# Altium schematic symbol library mySchlib.SchLib: 236 symbols (part 1 of 2)
Pins are listed as number, name and electrical type; pins without a type are passive.

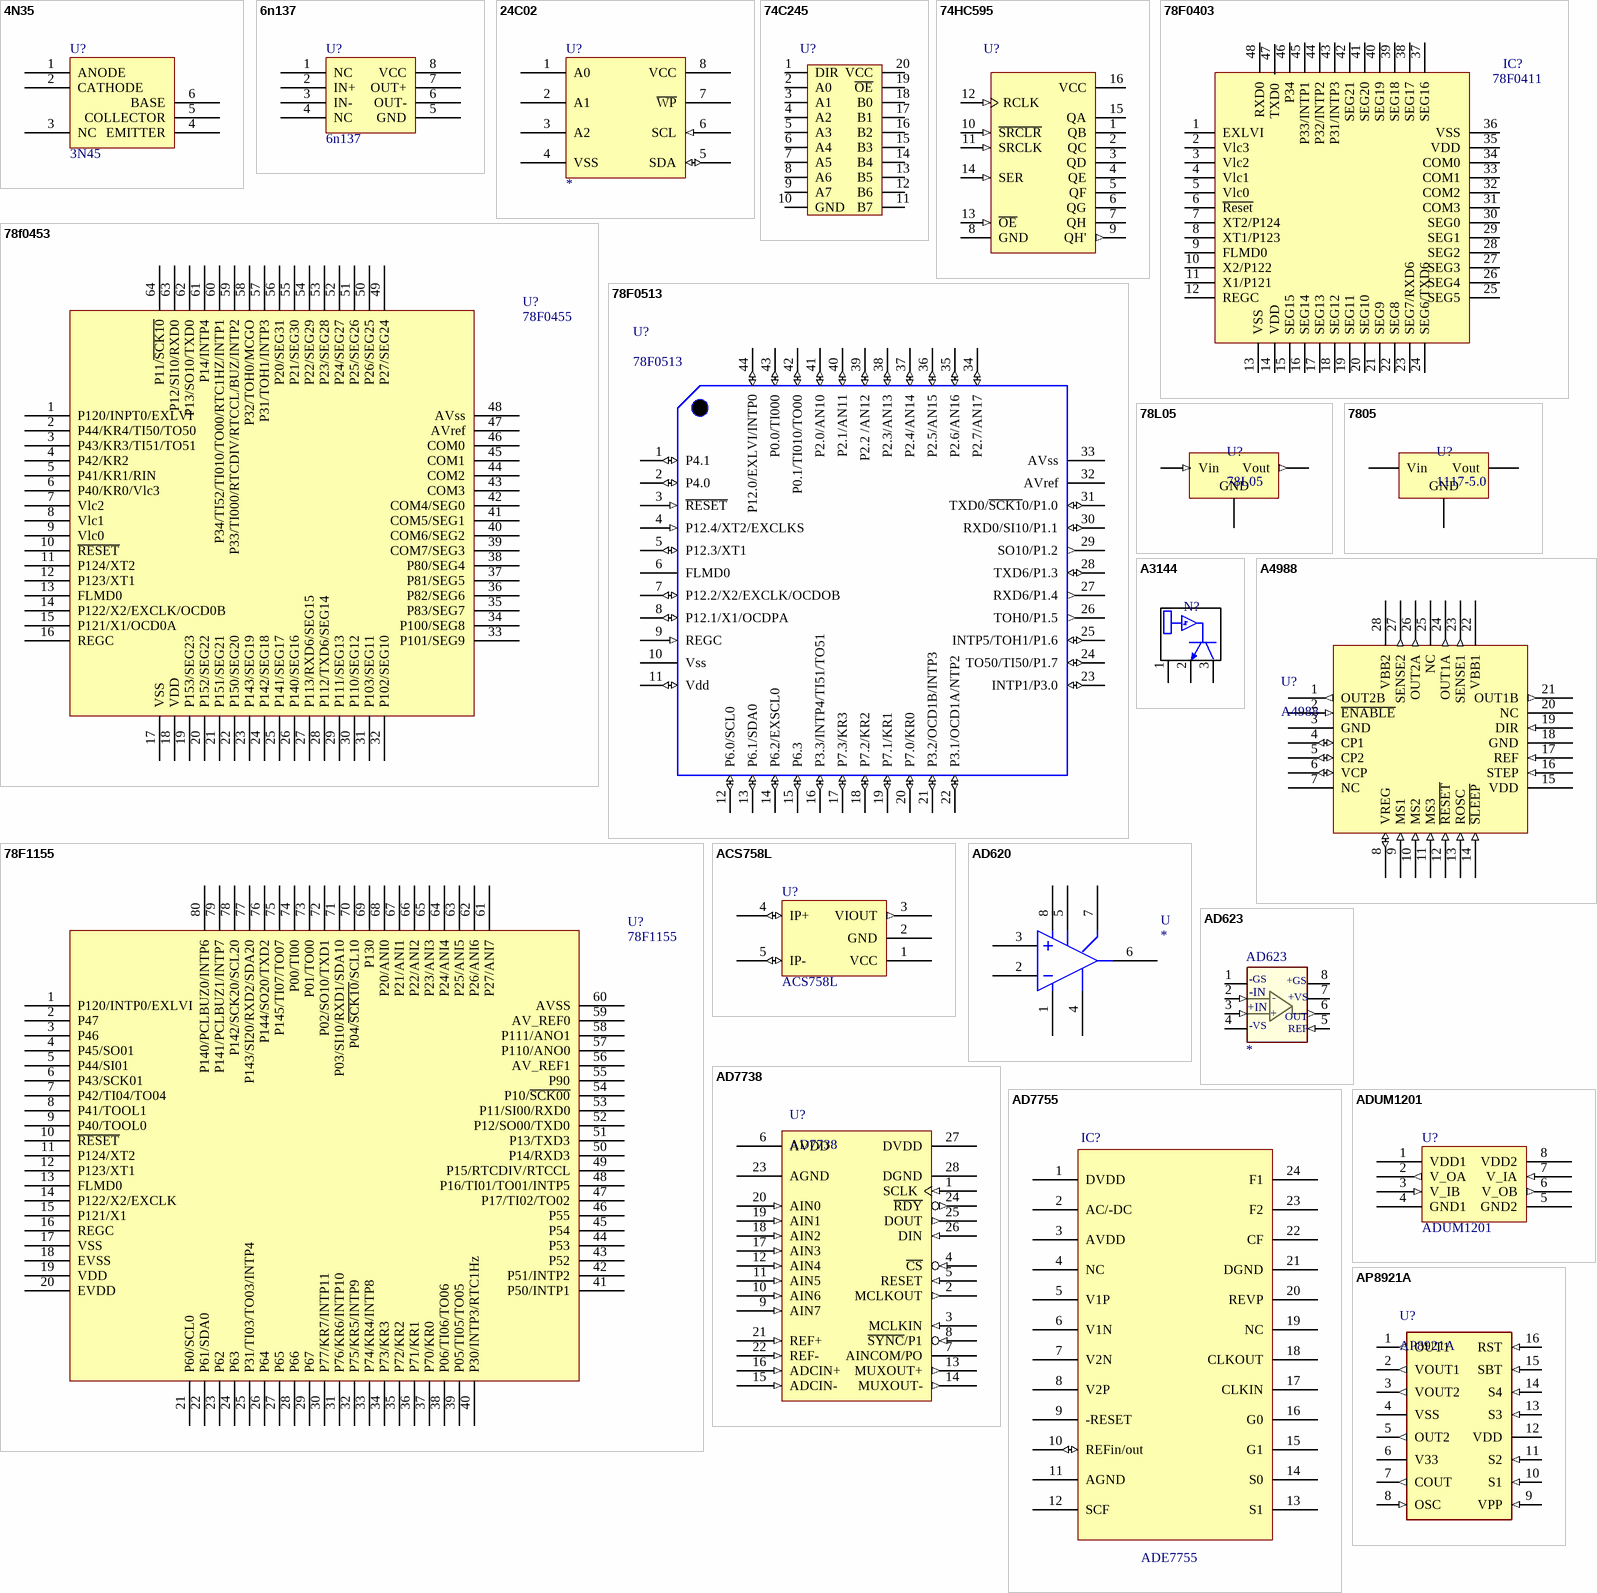
[diagram p0: symbols 4N35 to AP8921A]

## 4N35
designator U?, comment 3N45
footprint DIP6
pins: 1 ANODE, 2 CATHODE, 3 NC, 4 EMITTER, 5 COLLECTOR, 6 BASE

## 6n137
designator U?
footprint DIP8
pins: 1 NC, 2 IN+, 3 IN-, 4 NC, 5 GND (power), 6 OUT-, 7 OUT+, 8 VCC (power)

## 24C02
designator U?
pins: 1 A0, 2 A1, 3 A2, 4 VSS (power), 5 SDA (io), 6 SCL (in), 7 ~{WP}, 8 VCC (power)

## 74C245
designator U?  (value not drawn)
footprint DIP20
pins: 1 DIR, 2 A0, 3 A1, 4 A2, 5 A3, 6 A4, 7 A5, 8 A6, 9 A7, 10 GND (power), 11 B7 (power), 12 B6 (power), 13 B5 (power), 14 B4 (power), 15 B3 (power), 16 B2 (power), 17 B1 (power), 18 B0 (power), 19 ~{OE} (power), 20 VCC (power)

## 74HC595
designator U?  (value not drawn)
footprint SOJ-16
pins: 1 QB (hiz), 2 QC (hiz), 3 QD (hiz), 4 QE (hiz), 5 QF (hiz), 6 QG (hiz), 7 QH (hiz), 8 GND (power), 9 QH' (out), 10 ~{SRCLR} (in), 11 SRCLK (in), 12 RCLK (in), 13 ~{OE} (in), 14 SER (in), 15 QA (hiz), 16 VCC (power)

## 78F0403
designator IC?, comment 78F0411
footprint QUAD48
pins: 1 EXLVI, 2 Vlc3, 3 Vlc2, 4 Vlc1, 5 Vlc0, 6 ~{Reset}, 7 XT2/P124, 8 XT1/P123, 9 FLMD0, 10 X2/P122, 11 X1/P121, 12 REGC, 13 VSS, 14 VDD, 15 SEG15, 16 SEG14, 17 SEG13, 18 SEG12, 19 SEG11, 20 SEG10, 21 SEG9, 22 SEG8, 23 SEG7/RXD6, 24 SEG6/TXD6, 25 SEG5, 26 SEG4, 27 SEG3, 28 SEG2, 29 SEG1, 30 SEG0, 31 COM3, 32 COM2, 33 COM1, 34 COM0, 35 VDD, 36 VSS, 37 SEG16, 38 SEG17, 39 SEG18, 40 SEG19, 41 SEG20, 42 SEG21, 43 P31/INTP3, 44 P32/INTP2, 45 P33/INTP1, 46 P34, 47 TXD0, 48 RXD0
2 alternate drawings of the same symbol

## 78f0453
designator U?, comment 78F0455
footprint QFP12X12-64
pins: 1 P120/INPT0/EXLVI, 2 P44/KR4/TI50/TO50, 3 P43/KR3/TI51/TO51, 4 P42/KR2, 5 P41/KR1/RIN, 6 P40/KR0/Vlc3, 7 Vlc2, 8 Vlc1, 9 Vlc0, 10 ~{RESET}, 11 P124/XT2, 12 P123/XT1, 13 FLMD0, 14 P122/X2/EXCLK/OCD0B, 15 P121/X1/OCD0A, 16 REGC, 17 VSS, 18 VDD, 19 P153/SEG23, 20 P152/SEG22, 21 P151/SEG21, 22 P150/SEG20, 23 P143/SEG19, 24 P142/SEG18, 25 P141/SEG17, 26 P140/SEG16, 27 P113/RXD6/SEG15, 28 P112/TXD6/SEG14, 29 P111/SEG13, 30 P110/SEG12, 31 P103/SEG11, 32 P102/SEG10, 33 P101/SEG9, 34 P100/SEG8, 35 P83/SEG7, 36 P82/SEG6, 37 P81/SEG5, 38 P80/SEG4, 39 COM7/SEG3, 40 COM6/SEG2, 41 COM5/SEG1, 42 COM4/SEG0, 43 COM3, 44 COM2, 45 COM1, 46 COM0, 47 AVref, 48 AVss, 49 P27/SEG24, 50 P26/SEG25, 51 P25/SEG26, 52 P24/SEG27, 53 P23/SEG28, 54 P22/SEG29, 55 P21/SEG30, 56 P20/SEG31, 57 P31/TOH1/INTP3, 58 P32/TOH0/MCGO, 59 P33/TI000/RTCDIV/RTCCL/BUZ/INTP2, 60 P34/TI52/TI010/TO00/RTC1HZ/INTP1, 61 P14/INTP4, 62 P13/SO10/TXD0, 63 P12/SI10/RXD0, 64 P11/~{SCK10}
2 alternate drawings of the same symbol

## 78F0513
designator U?
footprint QFP10X10-G44/P.8N
pins: 1 P4.1 (io), 2 P4.0 (io), 3 ~{RESET} (in), 4 P12.4/XT2/EXCLKS (in), 5 P12.3/XT1 (io), 6 FLMD0, 7 P12.2/X2/EXCLK/OCDOB (io), 8 P12.1/X1/OCDPA (io), 9 REGC (in), 10 Vss (power), 11 Vdd (io), 12 P6.0/SCL0 (io), 13 P6.1/SDA0 (io), 14 P6.2/EXSCL0 (io), 15 P6.3 (io), 16 P3.3/INTP4/TI51/TO51 (io), 17 P7.3/KR3 (io), 18 P7.2/KR2 (io), 19 P7.1/KR1 (io), 20 P7.0/KR0 (io), 21 P3.2/OCD1B/INTP3 (io), 22 P3.1/OCD1A/NTP2 (io), 23 INTP1/P3.0 (io), 24 TO50/TI50/P1.7 (io), 25 INTP5/TOH1/P1.6 (io), 26 TOH0/P1.5 (out), 27 RXD6/P1.4 (out), 28 TXD6/P1.3 (io), 29 SO10/P1.2 (out), 30 RXD0/SI10/P1.1 (io), 31 TXD0/~{SCK1}0/P1.0 (io), 32 AVref (power), 33 AVss (power), 34 P2.7/AN17 (io), 35 P2.6/AN16 (io), 36 P2.5/AN15 (io), 37 P2.4/AN14 (io), 38 P2.3/AN13 (io), 39 P2.2 /AN12 (io), 40 P2.1/AN11 (io), 41 P2.0/AN10 (io), 42 P0.1/TI010/TO00 (io), 43 P0.0/TI000 (io), 44 P12.0/EXLVI/INTP0 (io)

## 78F1155
designator U?
footprint uPD78F1155
pins: 1 P120/INTP0/EXLVI, 2 P47, 3 P46, 4 P45/SO01, 5 P44/SI01, 6 P43/SCK01, 7 P42/TI04/TO04, 8 P41/TOOL1, 9 P40/TOOL0, 10 ~{RESET}, 11 P124/XT2, 12 P123/XT1, 13 FLMD0, 14 P122/X2/EXCLK, 15 P121/X1, 16 REGC, 17 VSS, 18 EVSS, 19 VDD, 20 EVDD, 21 P60/SCL0, 22 P61/SDA0, 23 P62, 24 P63, 25 P31/TI03/TO03/INTP4, 26 P64, 27 P65, 28 P66, 29 P67, 30 P77/KR7/INTP11, 31 P76/KR6/INTP10, 32 P75/KR5/INTP9, 33 P74/KR4/INTP8, 34 P73/KR3, 35 P72/KR2, 36 P71/KR1, 37 P70/KR0, 38 P06/TI06/TO06, 39 P05/TI05/TO05, 40 P30/INTP3/RTC1Hz, 41 P50/INTP1, 42 P51/INTP2, 43 P52, 44 P53, 45 P54, 46 P55, 47 P17/TI02/TO02, 48 P16/TI01/TO01/INTP5, 49 P15/RTCDIV/RTCCL, 50 P14/RXD3, 51 P13/TXD3, 52 P12/SO00/TXD0, 53 P11/SI00/RXD0, 54 P10/~{SCK00}, 55 P90, 56 AV_REF1, 57 P110/ANO0, 58 P111/ANO1, 59 AV_REF0, 60 AVSS, 61 P27/ANI7, 62 P26/ANI6, 63 P25/ANI5, 64 P24/ANI4, 65 P23/ANI3, 66 P22/ANI2, 67 P21/ANI1, 68 P20/ANI0, 69 P130, 70 P04/~{SCK10}/SCL10, 71 P03/SI10/RXD1/SDA10, 72 P02/SO10/TXD1, 73 P01/TO00, 74 P00/TI00, 75 P145/TI07/TO07, 76 P144/SO20/TXD2, 77 P143/SI20/RXD2/SDA20, 78 P142/SCK20/SCL20, 79 P141/PCLBUZ1/INTP7, 80 P140/PCLBUZ0/INTP6

## 78L05
designator U?
footprint TO-92
pins: 1 Vout (out), 2 GND (power), 3 Vin (in)

## 7805
designator U?, comment 1117-5.0
footprint SOT-223
pins: 1 GND, 2 Vout, 3 Vin

## A3144
designator N?, comment 霍尔元器件  (value not drawn)
pins: 1 (power), 2, 3

## A4988
designator U?
footprint QFN28 (QFN, 28-Leads, Body 5.00x5.00mm, Pitch 0.50mm, Thermal Pad 3.15x3.15mm, IPC Medium Density)
pins: 1 OUT2B (out), 2 ~{ENABLE} (in), 3 GND (power), 4 CP1 (io), 5 CP2 (io), 6 VCP (io), 7 NC, 8 VREG (io), 9 MS1 (in), 10 MS2 (in), 11 MS3 (in), 12 ~{RESET} (in), 13 ROSC (in), 14 ~{SLEEP} (in), 15 VDD (power), 16 STEP (in), 17 REF (in), 18 GND (power), 19 DIR (in), 20 NC, 21 OUT1B (out), 22 VBB1 (power), 23 SENSE1 (out), 24 OUT1A (out), 25 NC, 26 OUT2A (out), 27 SENSE2 (out), 28 VBB2 (power)

## ACS758L
designator U?
霍尔电流传感器
footprint PFF_ACS758
pins: 1 VCC (power), 2 GND (power), 3 VIOUT (out), 4 IP+ (io), 5 IP- (io)

## AD620
designator U
pins: 1, 2, 3, 4 VCC (power), 5, 6, 7 vcc (power), 8

## AD623
designator AD623
pins: 1 -RG, 2 -IN (in), 3 +IN (in), 4 -Vs (power), 5 Ref (in), 6 OUT (out), 7 +Vs (power), 8 +RG
text: -GS; +GS; -; +VS; +; -VS; REF

## AD7738
designator U?
pins: 1 SCLK (in), 2 MCLKOUT (out), 3 MCLKIN (in), 4 ~{CS} (in), 5 RESET (in), 6 AVDD (power), 7 AINCOM/PO, 8 ~{SYNC}/P1 (in), 9 AIN7 (in), 10 AIN6 (in), 11 AIN5 (in), 12 AIN4 (in), 13 MUXOUT+ (out), 14 MUXOUT- (out), 15 ADCIN- (in), 16 ADCIN+ (in), 17 AIN3 (in), 18 AIN2 (in), 19 AIN1 (in), 20 AIN0 (in), 21 REF+ (in), 22 REF- (in), 23 AGND (power), 24 ~{RDY} (out), 25 DOUT (out), 26 DIN (in), 27 DVDD (power), 28 DGND (power)

## AD7755
designator IC?, comment ADE7755
footprint SOP24 - DUPLICATE
footprint SSOP24-7755
pins: 1 DVDD, 2 AC/-DC, 3 AVDD, 4 NC, 5 V1P, 6 V1N, 7 V2N, 8 V2P, 9 -RESET, 10 REFin/out (io), 11 AGND, 12 SCF, 13 S1, 14 S0, 15 G1, 16 G0, 17 CLKIN, 18 CLKOUT, 19 NC, 20 REVP, 21 DGND, 22 CF, 23 F2, 24 F1
2 alternate drawings of the same symbol

## ADUM1201
designator U?
隔离器
footprint SO-8
pins: 1 VDD1 (power), 2 V_OA (out), 3 V_IB (in), 4 GND1 (power), 5 GND2 (power), 6 V_OB (out), 7 V_IA (in), 8 VDD2 (power)

## AP8921A
designator U?
footprint DIP16
pins: 1 OUT1 (out), 2 VOUT1 (out), 3 VOUT2 (out), 4 VSS (power), 5 OUT2 (out), 6 V33 (power), 7 COUT (out), 8 OSC (in), 9 VPP (in), 10 S1 (in), 11 S2 (in), 12 VDD (power), 13 S3 (in), 14 S4 (in), 15 SBT (in), 16 RST (in)

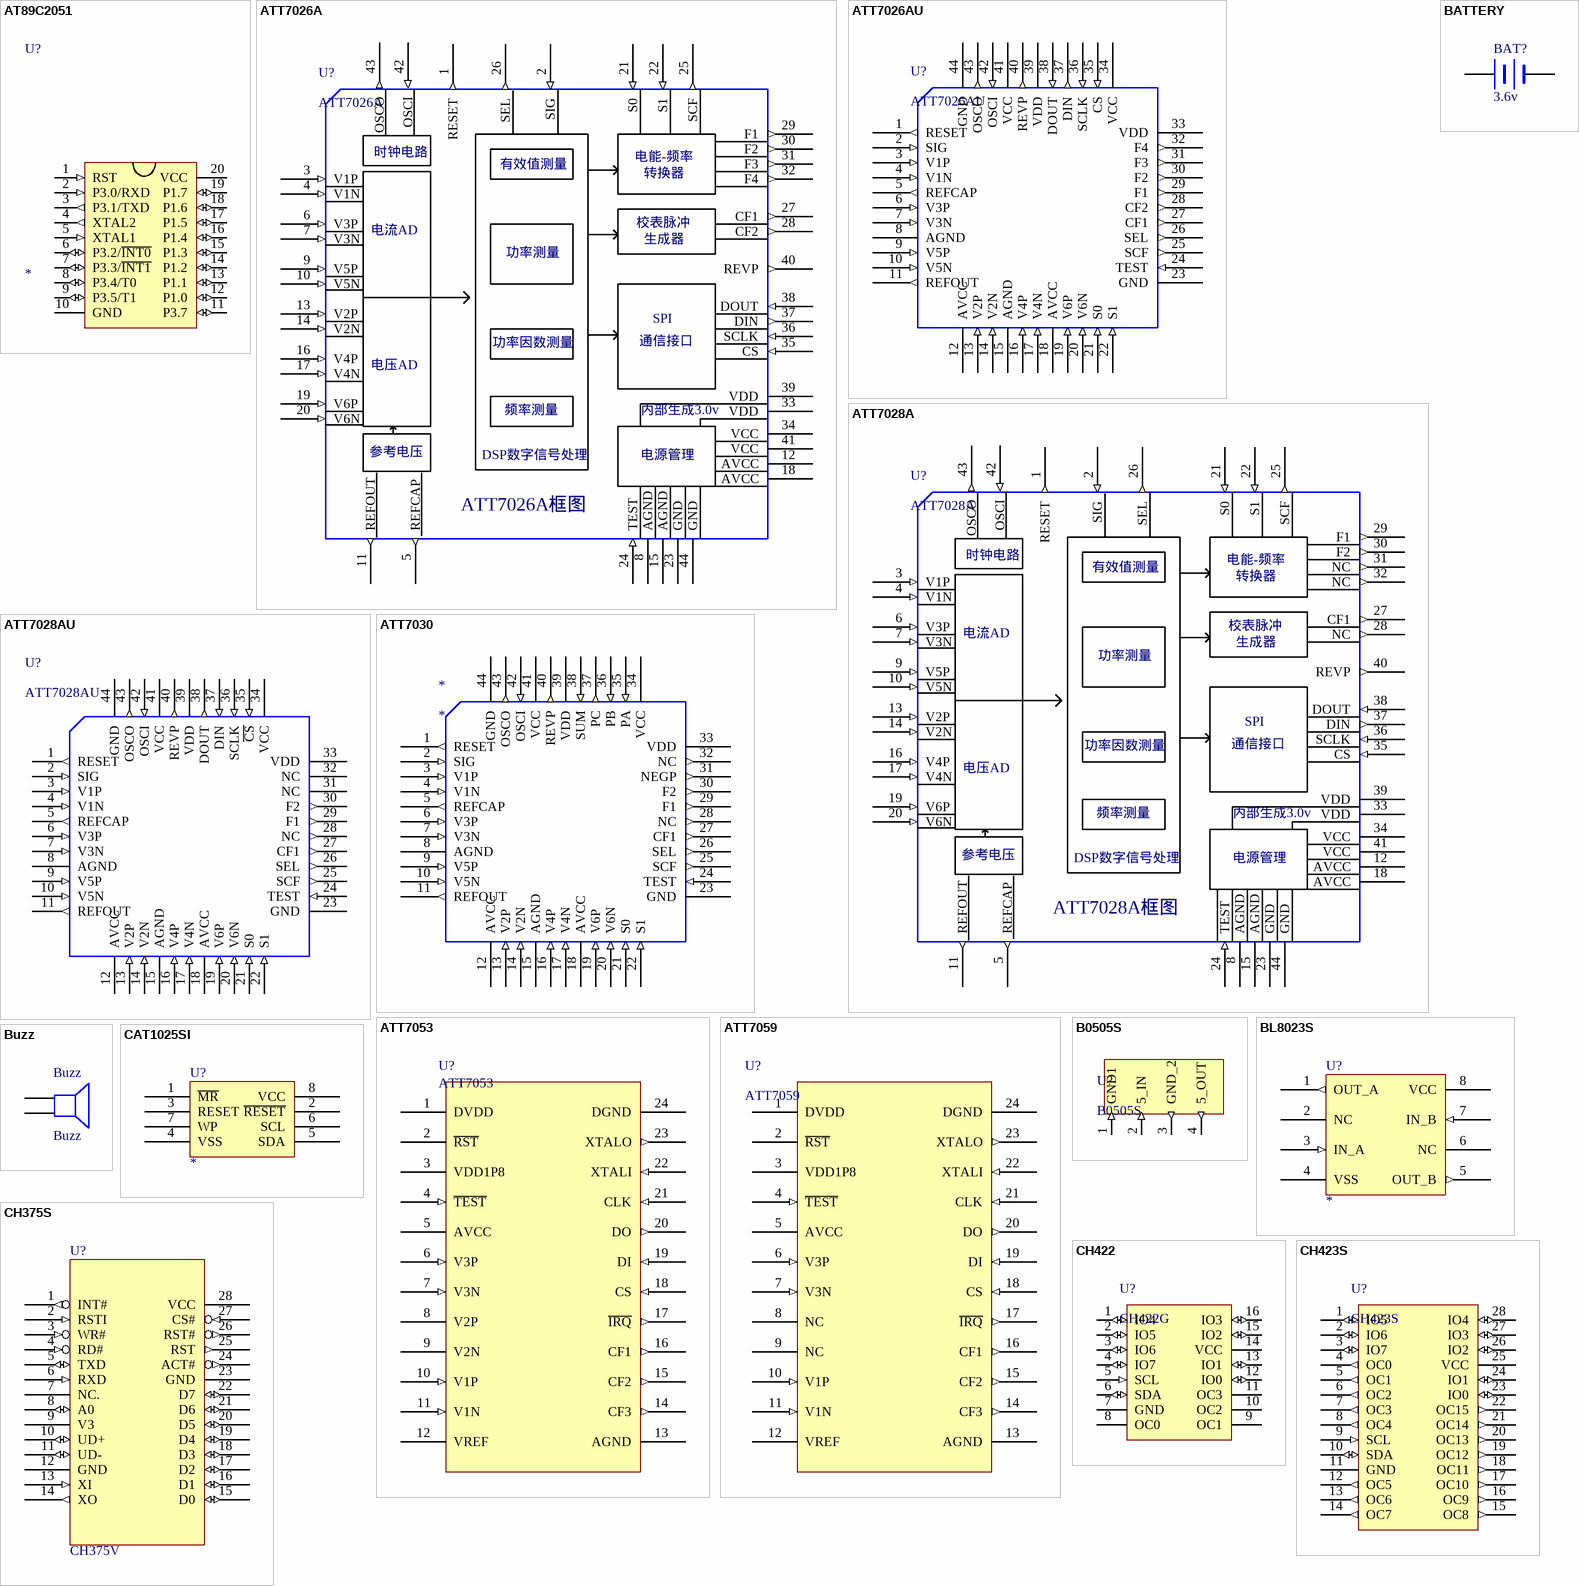
[diagram p1: symbols AT89C2051 to CH423S]

## AT89C2051
designator U?
footprint DIP20
pins: 1 RST (in), 2 P3.0/RXD (in), 3 P3.1/TXD (out), 4 XTAL2 (out), 5 XTAL1 (in), 6 P3.2/~{INT0} (io), 7 P3.3/~{INT1} (io), 8 P3.4/T0 (io), 9 P3.5/T1 (io), 10 GND (power), 11 P3.7 (io), 12 P1.0 (io), 13 P1.1 (io), 14 P1.2 (io), 15 P1.3 (io), 16 P1.4 (io), 17 P1.5 (io), 18 P1.6 (io), 19 P1.7 (io), 20 VCC (power)

## ATT7026A
designator U?
footprint ATT7026 (QFP, 44-Leads, Body 14.0x14.0mm (max), Pitch 0.80mm, IPC Medium Density)
pins: 1 RESET (out), 2 SIG (in), 3 V1P (in), 4 V1N (in), 5 REFCAP (out), 6 V3P (in), 7 V3N (in), 8 AGND (power), 9 V5P (in), 10 V5N (in), 11 REFOUT (out), 12 AVCC (power), 13 V2P (in), 14 V2N (in), 15 AGND (power), 16 V4P (in), 17 V4N (in), 18 AVCC (power), 19 V6P (in), 20 V6N (in), 21 S0 (in), 22 S1 (in), 23 GND (power), 24 TEST (in), 25 SCF (out), 26 SEL (out), 27 CF1 (out), 28 CF2 (out), 29 F1 (out), 30 F2 (out), 31 F3 (out), 32 F4 (out), 33 VDD (power), 34 VCC (power), 35 CS (in), 36 SCLK (in), 37 DIN (out), 38 DOUT (in), 39 VDD (power), 40 REVP (out), 41 VCC (power), 42 OSCI (in), 43 OSCO (out), 44 GND (power)
text: 时钟电路; 电能-频率; 有效值测量; 转换器; 校表脉冲; 电流AD; 生成器; 功率测量; SPI; 功率因数测量; 通信接口; 电压AD; 频率测量; 内部生成3.0v; 参考电压; DSP数字信号处理; 电源管理; ATT7026A框图

## ATT7026AU
designator U?
footprint ATT7026 (QFP, 44-Leads, Body 14.0x14.0mm (max), Pitch 0.80mm, IPC Medium Density)
pins: 1 RESET (out), 2 SIG (in), 3 V1P (in), 4 V1N (in), 5 REFCAP (out), 6 V3P (in), 7 V3N (in), 8 AGND (power), 9 V5P (in), 10 V5N (in), 11 REFOUT (out), 12 AVCC (power), 13 V2P (in), 14 V2N (in), 15 AGND (power), 16 V4P (in), 17 V4N (in), 18 AVCC (power), 19 V6P (in), 20 V6N (in), 21 S0 (in), 22 S1 (in), 23 GND (power), 24 TEST (in), 25 SCF (out), 26 SEL (out), 27 CF1 (out), 28 CF2 (out), 29 F1 (out), 30 F2 (out), 31 F3 (out), 32 F4 (out), 33 VDD (power), 34 VCC (power), 35 CS (in), 36 SCLK (in), 37 DIN (out), 38 DOUT (in), 39 VDD (power), 40 REVP (out), 41 VCC (power), 42 OSCI (in), 43 OSCO (out), 44 GND (power)

## ATT7028A
designator U?
footprint ATT7026 (QFP, 44-Leads, Body 14.0x14.0mm (max), Pitch 0.80mm, IPC Medium Density)
pins: 1 RESET (out), 2 SIG (in), 3 V1P (in), 4 V1N (in), 5 REFCAP (out), 6 V3P (in), 7 V3N (in), 8 AGND (power), 9 V5P (in), 10 V5N (in), 11 REFOUT (out), 12 AVCC (power), 13 V2P (in), 14 V2N (in), 15 AGND (power), 16 V4P (in), 17 V4N (in), 18 AVCC (power), 19 V6P (in), 20 V6N (in), 21 S0 (in), 22 S1 (in), 23 GND (power), 24 TEST (in), 25 SCF (out), 26 SEL (out), 27 CF1 (out), 28 NC (out), 29 F1 (out), 30 F2 (out), 31 NC (out), 32 NC (out), 33 VDD (power), 34 VCC (power), 35 CS (in), 36 SCLK (in), 37 DIN (out), 38 DOUT (in), 39 VDD (power), 40 REVP (out), 41 VCC (power), 42 OSCI (in), 43 OSCO (out), 44 GND (power)
text: 时钟电路; 电能-频率; 有效值测量; 转换器; 校表脉冲; 电流AD; 生成器; 功率测量; SPI; 功率因数测量; 通信接口; 电压AD; 频率测量; 内部生成3.0v; 参考电压; DSP数字信号处理; 电源管理; ATT7028A框图

## ATT7028AU
designator U?
footprint ATT7026 (QFP, 44-Leads, Body 14.0x14.0mm (max), Pitch 0.80mm, IPC Medium Density)
pins: 1 RESET (out), 2 SIG (in), 3 V1P (in), 4 V1N (in), 5 REFCAP (out), 6 V3P (in), 7 V3N (in), 8 AGND (power), 9 V5P (in), 10 V5N (in), 11 REFOUT (out), 12 AVCC (power), 13 V2P (in), 14 V2N (in), 15 AGND (power), 16 V4P (in), 17 V4N (in), 18 AVCC (power), 19 V6P (in), 20 V6N (in), 21 S0 (in), 22 S1 (in), 23 GND (power), 24 TEST (in), 25 SCF (out), 26 SEL (out), 27 CF1 (out), 28 NC (out), 29 F1 (out), 30 F2 (out), 31 NC, 32 NC, 33 VDD (power), 34 VCC (power), 35 ~{CS} (in), 36 SCLK (in), 37 DIN (in), 38 DOUT (out), 39 VDD (power), 40 REVP (out), 41 VCC (power), 42 OSCI (in), 43 OSCO (out), 44 GND (power)

## ATT7030
designator *
pins: 1 RESET (out), 2 SIG (in), 3 V1P (in), 4 V1N (in), 5 REFCAP (out), 6 V3P (in), 7 V3N (in), 8 AGND (power), 9 V5P (in), 10 V5N (in), 11 REFOUT (out), 12 AVCC (power), 13 V2P (in), 14 V2N (in), 15 AGND (power), 16 V4P (in), 17 V4N (in), 18 AVCC (power), 19 V6P (in), 20 V6N (in), 21 S0 (in), 22 S1 (in), 23 GND (power), 24 TEST (in), 25 SCF (out), 26 SEL (out), 27 CF1 (out), 28 NC (out), 29 F1 (out), 30 F2 (out), 31 NEGP (out), 32 NC (out), 33 VDD (power), 34 VCC (power), 35 PA (in), 36 PB (in), 37 PC (out), 38 SUM (in), 39 VDD (power), 40 REVP (out), 41 VCC (power), 42 OSCI (in), 43 OSCO (out), 44 GND (power)

## ATT7053
designator U?
footprint SSOP24 -7059
pins: 1 DVDD (power), 2 ~{RST}, 3 VDD1P8 (power), 4 ~{TEST} (in), 5 AVCC (power), 6 V3P (in), 7 V3N (in), 8 V2P, 9 V2N, 10 V1P (in), 11 V1N (in), 12 VREF (power), 13 AGND (power), 14 CF3 (out), 15 CF2 (out), 16 CF1 (out), 17 ~{IRQ} (out), 18 CS (in), 19 DI (in), 20 DO (out), 21 CLK (in), 22 XTALI (in), 23 XTALO (out), 24 DGND (power)

## ATT7059
designator U?
footprint SSOP24 -7059
pins: 1 DVDD (power), 2 ~{RST}, 3 VDD1P8 (power), 4 ~{TEST} (in), 5 AVCC (power), 6 V3P (in), 7 V3N (in), 8 NC, 9 NC, 10 V1P (in), 11 V1N (in), 12 VREF (power), 13 AGND (power), 14 CF3 (out), 15 CF2 (out), 16 CF1 (out), 17 ~{IRQ} (out), 18 CS (in), 19 DI (in), 20 DO (out), 21 CLK (in), 22 XTALI (in), 23 XTALO (out), 24 DGND (power)

## B0505S
designator U?
footprint B05S05
pins: 1 GND1 (in), 2 5_IN (in), 3 GND_2 (out), 4 5_OUT (out)

## BATTERY
designator BAT?, comment 3.6v
Battery
footprint BAT
pins: 1 +, 2 -
2 alternate drawings of the same symbol

## BL8023S
designator U?
footprint SO8 - duplicate (Small Outline; 8 Leads; Body Width 3.9 mm; Pitch 1.27 mm)
pins: 1 OUT_A (out), 2 NC, 3 IN_A (in), 4 VSS (power), 5 OUT_B (out), 6 NC, 7 IN_B (in), 8 VCC (power)

## Buzz
designator Buzz
Published: 24-Mar-1999; LatestRevisionDate: 17-Jul-2002; LatestRevisionNote: Re-released for DXP Platform.; PackageReference: PIN2; Publisher: Altium Limited
pins: 1, 2

## CAT1025SI
designator U?
footprint SO-8
pins: 1 ~{MR}, 2 ~{RESET}, 3 RESET, 4 VSS, 5 SDA, 6 SCL, 7 WP, 8 VCC

## CH375S
designator U?, comment CH375V
USB Host & Device / Slave for MCU, parallel / UART Serial
footprint SOP28
pins: 1 INT# (out), 2 RSTI (in), 3 WR# (in), 4 RD# (in), 5 TXD (io), 6 RXD (in), 7 NC., 8 A0 (io), 9 V3 (power), 10 UD+ (io), 11 UD- (io), 12 GND (power), 13 XI (in), 14 XO (out), 15 D0 (io), 16 D1 (io), 17 D2 (io), 18 D3 (io), 19 D4 (io), 20 D5 (io), 21 D6 (io), 22 D7 (io), 23 GND (power), 24 ACT# (out), 25 RST (out), 26 RST# (out), 27 CS# (in), 28 VCC (power)

## CH422
designator U?, comment CH422G
pins: 1 IO4 (io), 2 IO5 (io), 3 IO6 (io), 4 IO7 (io), 5 SCL (in), 6 SDA (io), 7 GND (power), 8 OC0 (oc), 9 OC1 (oc), 10 OC2 (oc), 11 OC3 (oc), 12 IO0 (io), 13 IO1 (io), 14 VCC (power), 15 IO2 (io), 16 IO3 (io)

## CH423S
designator U?
footprint SOP28
pins: 1 IO5 (io), 2 IO6 (io), 3 IO7 (io), 4 OC0 (out), 5 OC1 (out), 6 OC2 (out), 7 OC3 (out), 8 OC4 (out), 9 SCL (in), 10 SDA (io), 11 GND (power), 12 OC5 (out), 13 OC6 (out), 14 OC7 (out), 15 OC8 (out), 16 OC9 (out), 17 OC10 (out), 18 OC11 (out), 19 OC12 (out), 20 OC13 (out), 21 OC14 (out), 22 OC15 (out), 23 IO0 (io), 24 IO1 (io), 25 VCC (power), 26 IO2 (io), 27 IO3 (io), 28 IO4 (io)

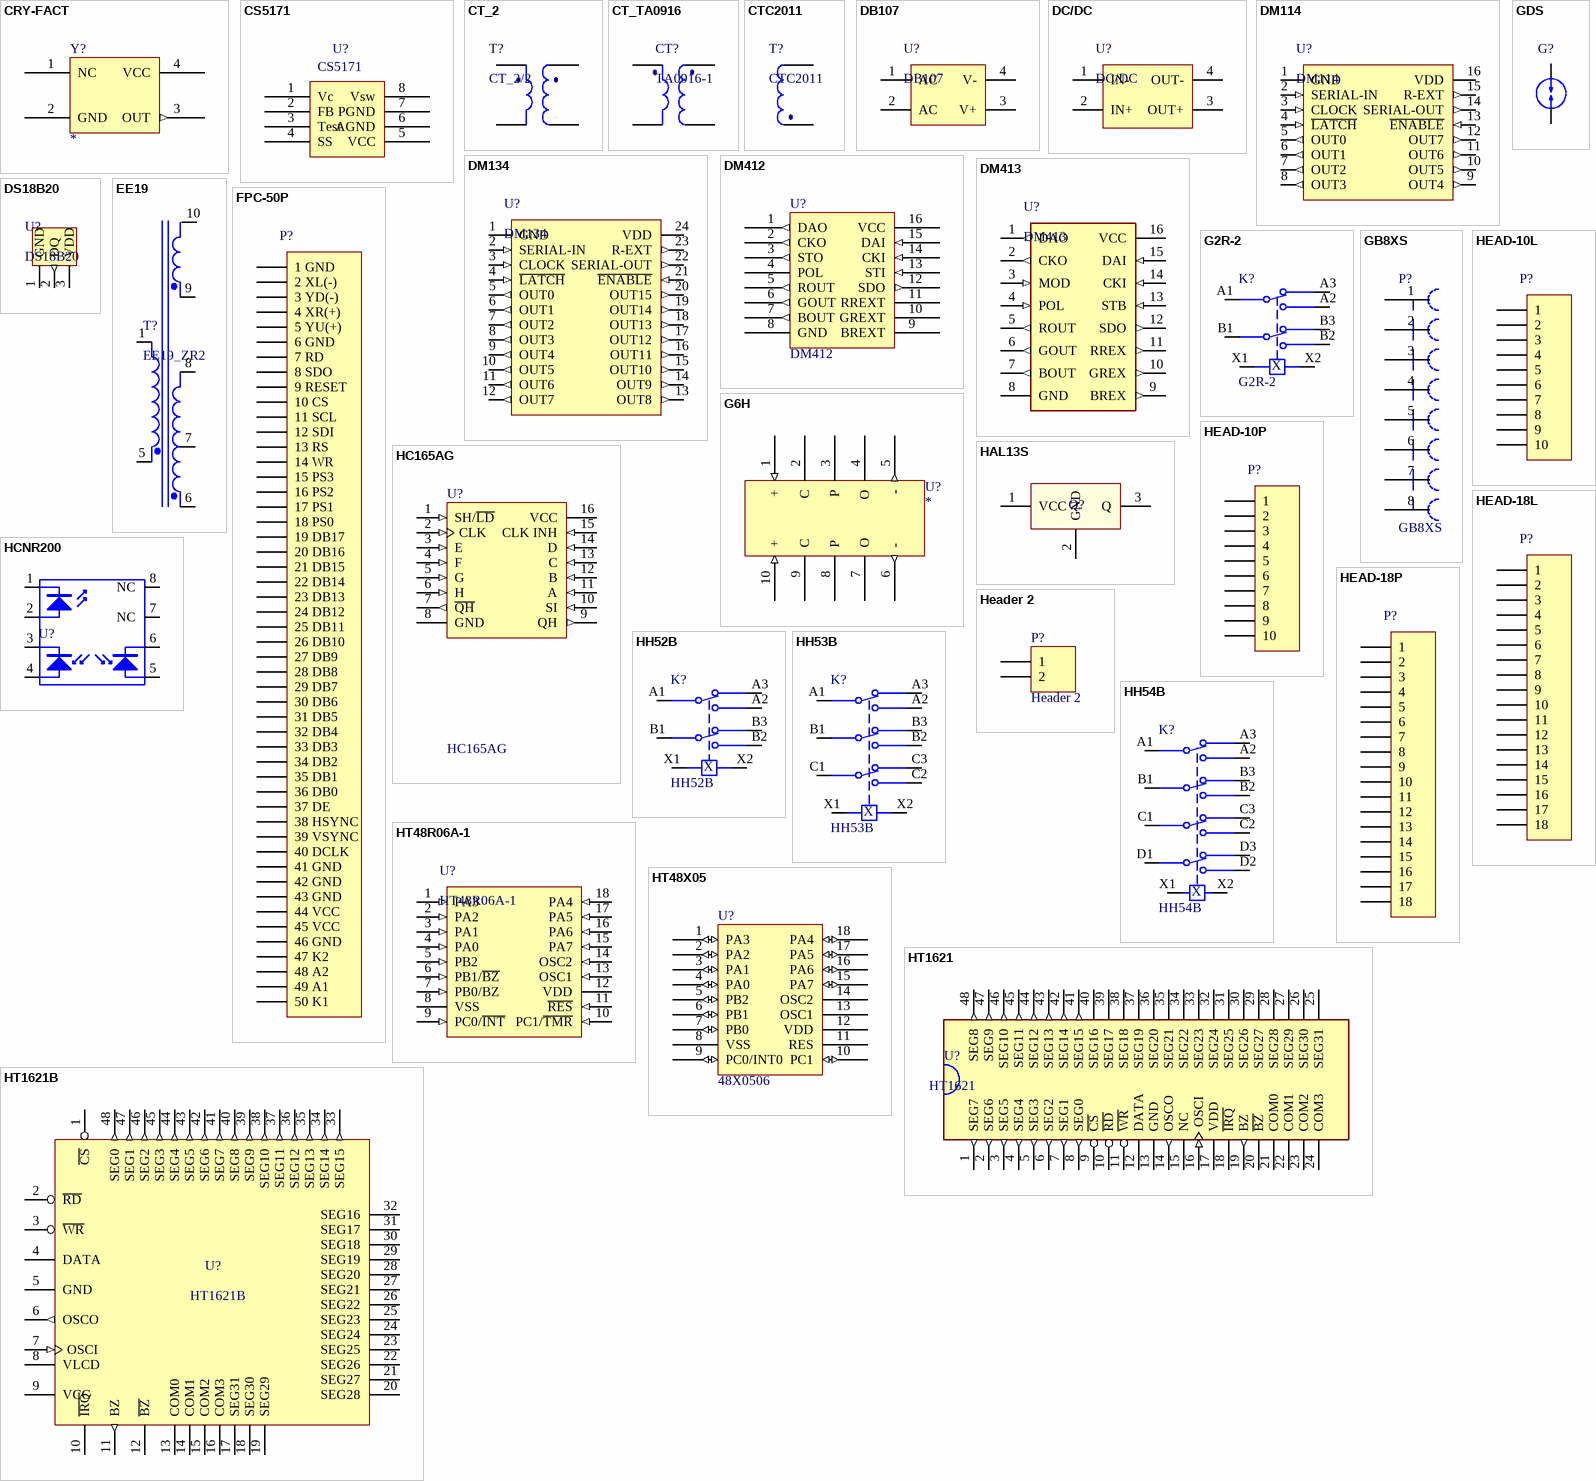
[diagram p2: symbols CRY-FACT to HT1621B]

## CRY-FACT
designator Y?
footprint YA-FACT
pins: 1 NC (hiz), 2 GND (power), 3 OUT (out), 4 VCC (power)

## CS5171
designator U?
footprint SO-8
pins: 1 Vc, 2 FB, 3 Test, 4 SS, 5 VCC, 6 AGND, 7 PGND, 8 Vsw
2 alternate drawings of the same symbol

## CT_2
designator T?, comment CT_2/2
footprint CT_2
pins: 1, 2, 3, 4

## CT_TA0916
designator CT?, comment TA0916-1
footprint CT2/4
pins: 1, 2, 3, 4

## CTC2011
designator T?
footprint CTC2011 (5A/2,5mA)
pins: 1, 2

## DB107
designator U?
footprint DB107
pins: 1 AC, 2 AC, 3 V+, 4 V-

## DC/DC
designator U?
footprint ND4805
pins: 1 IN-, 2 IN+, 3 OUT+, 4 OUT-

## DM114
designator U?
footprint DIP16
pins: 1 GND (power), 2 SERIAL-IN (in), 3 CLOCK (in), 4 ~{LATCH} (in), 5 OUT0 (out), 6 OUT1 (out), 7 OUT2 (out), 8 OUT3 (out), 9 OUT4 (out), 10 OUT5 (out), 11 OUT6 (out), 12 OUT7 (out), 13 ~{ENABLE} (in), 14 SERIAL-OUT (out), 15 R-EXT (out), 16 VDD (power)

## DM134
designator U?
footprint DIP24
pins: 1 GND (power), 2 SERIAL-IN (in), 3 CLOCK (in), 4 ~{LATCH} (in), 5 OUT0 (out), 6 OUT1 (out), 7 OUT2 (out), 8 OUT3 (out), 9 OUT4 (out), 10 OUT5 (out), 11 OUT6 (out), 12 OUT7 (out), 13 OUT8 (out), 14 OUT9 (out), 15 OUT10 (out), 16 OUT11 (out), 17 OUT12 (out), 18 OUT13 (out), 19 OUT14 (out), 20 OUT15 (out), 21 ~{ENABLE} (in), 22 SERIAL-OUT (out), 23 R-EXT (out), 24 VDD (power)

## DM412
designator U?
footprint SSOP16 (Footprint not found)
pins: 1 DAO (out), 2 CKO (out), 3 STO (out), 4 POL, 5 ROUT (out), 6 GOUT (out), 7 BOUT (out), 8 GND (power), 9 BREXT, 10 GREXT, 11 RREXT, 12 SDO (out), 13 STI (in), 14 CKI (in), 15 DAI (in), 16 VCC (power)

## DM413
designator U?
pins: 1 DAO (out), 2 CKO (out), 3 MOD (in), 4 POL (in), 5 ROUT (out), 6 GOUT (out), 7 BOUT (out), 8 GND (power), 9 BREX (out), 10 GREX (out), 11 RREX (out), 12 SDO (out), 13 STB (in), 14 CKI (in), 15 DAI (in), 16 VCC (power)

## DS18B20
designator U?
footprint TO-92_DS18B20
pins: 1 GND (power), 2 DQ (out), 3 VDD (power)

## EE19
designator T?, comment EE19_ZR2
footprint EE19
pins: 1, 5, 6, 7, 8, 9, 10

## FPC-50P
designator P?, comment SH230R-5.08  (value not drawn)
pins: 1 1 GND, 2 2 XL(-), 3 3 YD(-), 4 4 XR(+), 5 5 YU(+), 6 6 GND, 7 7 RD, 8 8 SDO, 9 9 RESET, 10 10 CS, 11 11 SCL, 12 12 SDI, 13 13 RS, 14 14 WR, 15 15 PS3, 16 16 PS2, 17 17 PS1, 18 18 PS0, 19 19 DB17, 20 20 DB16, 21 21 DB15, 22 22 DB14, 23 23 DB13, 24 24 DB12, 25 25 DB11, 26 26 DB10, 27 27 DB9, 28 28 DB8, 29 29 DB7, 30 30 DB6, 31 31 DB5, 32 32 DB4, 33 33 DB3, 34 34 DB2, 35 35 DB1, 36 36 DB0, 37 37 DE, 38 38 HSYNC, 39 39 VSYNC, 40 40 DCLK, 41 41 GND, 42 42 GND, 43 43 GND, 44 44 VCC, 45 45 VCC, 46 46 GND, 47 47 K2, 48 48 A2, 49 49 A1, 50 50 K1

## G2R-2
designator K?
pins: A1, A2, A3, B1, B2, B3, X1, X2
text: X

## G6H
designator U?
G6HK-2
pins: 1 + (in), 2 C, 3 P, 4 O, 5 - (out), 6 - (out), 7 O, 8 P, 9 C, 10 + (in)

## GB8XS
designator P?
footprint finger
pins: 1, 2, 3, 4, 5, 6, 7, 8

## GDS
designator G?  (value not drawn)
GAS DISCHARGE TUBE
footprint LC-GDTs_SMD
footprint LC-SMD-5050_2P
pins: 1, 2

## HAL13S
designator Q?, comment 013  (value not drawn)
footprint LC-SOT-23-3
pins: 1 VCC (power), 2 GND (power), 3 Q (power)

## HC165AG
designator U?
8-Bit Parallel-Load Shift Register; Published: 8-Jun-2000; LatestRevisionDate: 13-Apr-2006; LatestRevisionNote: IPC-7351 Footprint Added.; DatasheetVersion: May-1997; PackageVersion: Jan-1998; PackageReference: D016; Publisher: Altium Limited; PackageDescription: 16-Pin Small Outline Integrated Circuit 1.27 mm Pitch; Code_IPC: SOIC127P600-16; ComponentLink1Description: Manufacturer Link; ComponentLink1URL: http://www.ti.com/; ComponentLink2Description: Datasheet; ComponentLink2URL: http://www-s.ti.com/sc/ds/sn74hc165.pdf
footprint SOIC-16
pins: 1 SH/~{LD} (in), 2 CLK (in), 3 E (in), 4 F (in), 5 G (in), 6 H (in), 7 ~{QH} (out), 8 GND (power), 9 QH (out), 10 SI (in), 11 A (in), 12 B (in), 13 C (in), 14 D (in), 15 CLK INH (in), 16 VCC (power)

## HCNR200
designator U?  (value not drawn)
footprint LC-DIP-8_K
pins: 1 A "Anode", 2 K "Cathode", 3 E "Emitter", 4 C "Collector", 5 C "Collector", 6 PD2 "Collector", 7 NC "Collector", 8 NC "Collector"

## HEAD-10L
designator P?, comment SH230R-5.08  (value not drawn)
footprint HEAD-10L-2.0 (Connector; Header; 8 Position)
pins: 1, 2, 3, 4, 5, 6, 7, 8, 9, 10

## HEAD-10P
designator P?, comment SH230R-5.08  (value not drawn)
footprint HEAD-10P-2.0
pins: 1, 2, 3, 4, 5, 6, 7, 8, 9, 10

## HEAD-18L
designator P?, comment SH230R-5.08  (value not drawn)
footprint HEAD-18L-2.0 (Connector; Header; 8 Position)
pins: 1, 2, 3, 4, 5, 6, 7, 8, 9, 10, 11, 12, 13, 14, 15, 16, 17, 18

## HEAD-18P
designator P?, comment SH230R-5.08  (value not drawn)
footprint HEAD-18P-2.0
pins: 1, 2, 3, 4, 5, 6, 7, 8, 9, 10, 11, 12, 13, 14, 15, 16, 17, 18

## Header 2
designator P?
Header, 2-Pin; LatestRevisionDate: 17-Jul-2002; LatestRevisionNote: Re-released for DXP Platform.; Publisher: Altium Limited
footprint CJ
pins: 1, 2
2 alternate drawings of the same symbol

## HH52B
designator K?
footprint HH52B
pins: A1, A2, A3, B1, B2, B3, X1, X2
text: X

## HH53B
designator K?
footprint HH53B
pins: A1, A2, A3, B1, B2, B3, C1, C2, C3, X1, X2
4 alternate drawings of the same symbol
text: X

## HH54B
designator K?
footprint HH54B
pins: A1, A2, A3, B1, B2, B3, C1, C2, C3, D1, D2, D3, X1, X2
text: X

## HT48R06A-1
designator U?
footprint DIP18
pins: 1 PA3 (in), 2 PA2 (in), 3 PA1 (in), 4 PA0 (in), 5 PB2 (in), 6 PB1/~{BZ} (in), 7 PB0/BZ (in), 8 VSS (power), 9 PC0/~{INT} (in), 10 PC1/~{TMR} (in), 11 ~{RES} (in), 12 VDD (power), 13 OSC1 (in), 14 OSC2 (in), 15 PA7 (in), 16 PA6 (in), 17 PA5 (in), 18 PA4 (in)

## HT48X05
designator U?, comment 48X0506
footprint DIP18
pins: 1 PA3 (io), 2 PA2 (io), 3 PA1 (io), 4 PA0 (io), 5 PB2 (io), 6 PB1 (io), 7 PB0 (io), 8 VSS (power), 9 PC0/INT0 (io), 10 PC1 (io), 11 RES, 12 VDD (power), 13 OSC1, 14 OSC2, 15 PA7 (io), 16 PA6 (io), 17 PA5 (io), 18 PA4 (io)

## HT1621
designator U?
footprint SSOP48
pins: 1 SEG7 (out), 2 SEG6 (out), 3 SEG5 (out), 4 SEG4 (out), 5 SEG3 (out), 6 SEG2 (out), 7 SEG1 (out), 8 SEG0 (out), 9 ~{CS}, 10 ~{RD}, 11 ~{WR}, 12 DATA, 13 GND (power), 14 OSCO (out), 15 NC (power), 16 OSCI (in), 17 VDD, 18 ~{IRQ}, 19 BZ (out), 20 ~{BZ}, 21 COM0, 22 COM1, 23 COM2, 24 COM3, 25 SEG31, 26 SEG30, 27 SEG29, 28 SEG28, 29 SEG27, 30 SEG26, 31 SEG25, 32 SEG24, 33 SEG23, 34 SEG22, 35 SEG21, 36 SEG20, 37 SEG19, 38 SEG18, 39 SEG17, 40 SEG16, 41 SEG15 (out), 42 SEG14 (out), 43 SEG13 (out), 44 SEG12 (out), 45 SEG11 (out), 46 SEG10 (out), 47 SEG9 (out), 48 SEG8 (out)

## HT1621B
designator U?
footprint HT1621-PAD
pins: 1 ~{CS}, 2 ~{RD}, 3 ~{WR}, 4 DATA, 5 GND (power), 6 OSCO (out), 7 OSCI (in), 8 VLCD, 9 VCC (power), 10 ~{IRQ}, 11 BZ (out), 12 ~{BZ}, 13 COM0, 14 COM1, 15 COM2, 16 COM3, 17 SEG31, 18 SEG30, 19 SEG29, 20 SEG28, 21 SEG27, 22 SEG26, 23 SEG25, 24 SEG24, 25 SEG23, 26 SEG22, 27 SEG21, 28 SEG20, 29 SEG19, 30 SEG18, 31 SEG17, 32 SEG16, 33 SEG15 (out), 34 SEG14 (out), 35 SEG13 (out), 36 SEG12 (out), 37 SEG11 (out), 38 SEG10 (out), 39 SEG9 (out), 40 SEG8 (out), 41 SEG7 (out), 42 SEG6 (out), 43 SEG5 (out), 44 SEG4 (out), 45 SEG3 (out), 46 SEG2 (out), 47 SEG1 (out), 48 SEG0 (out)

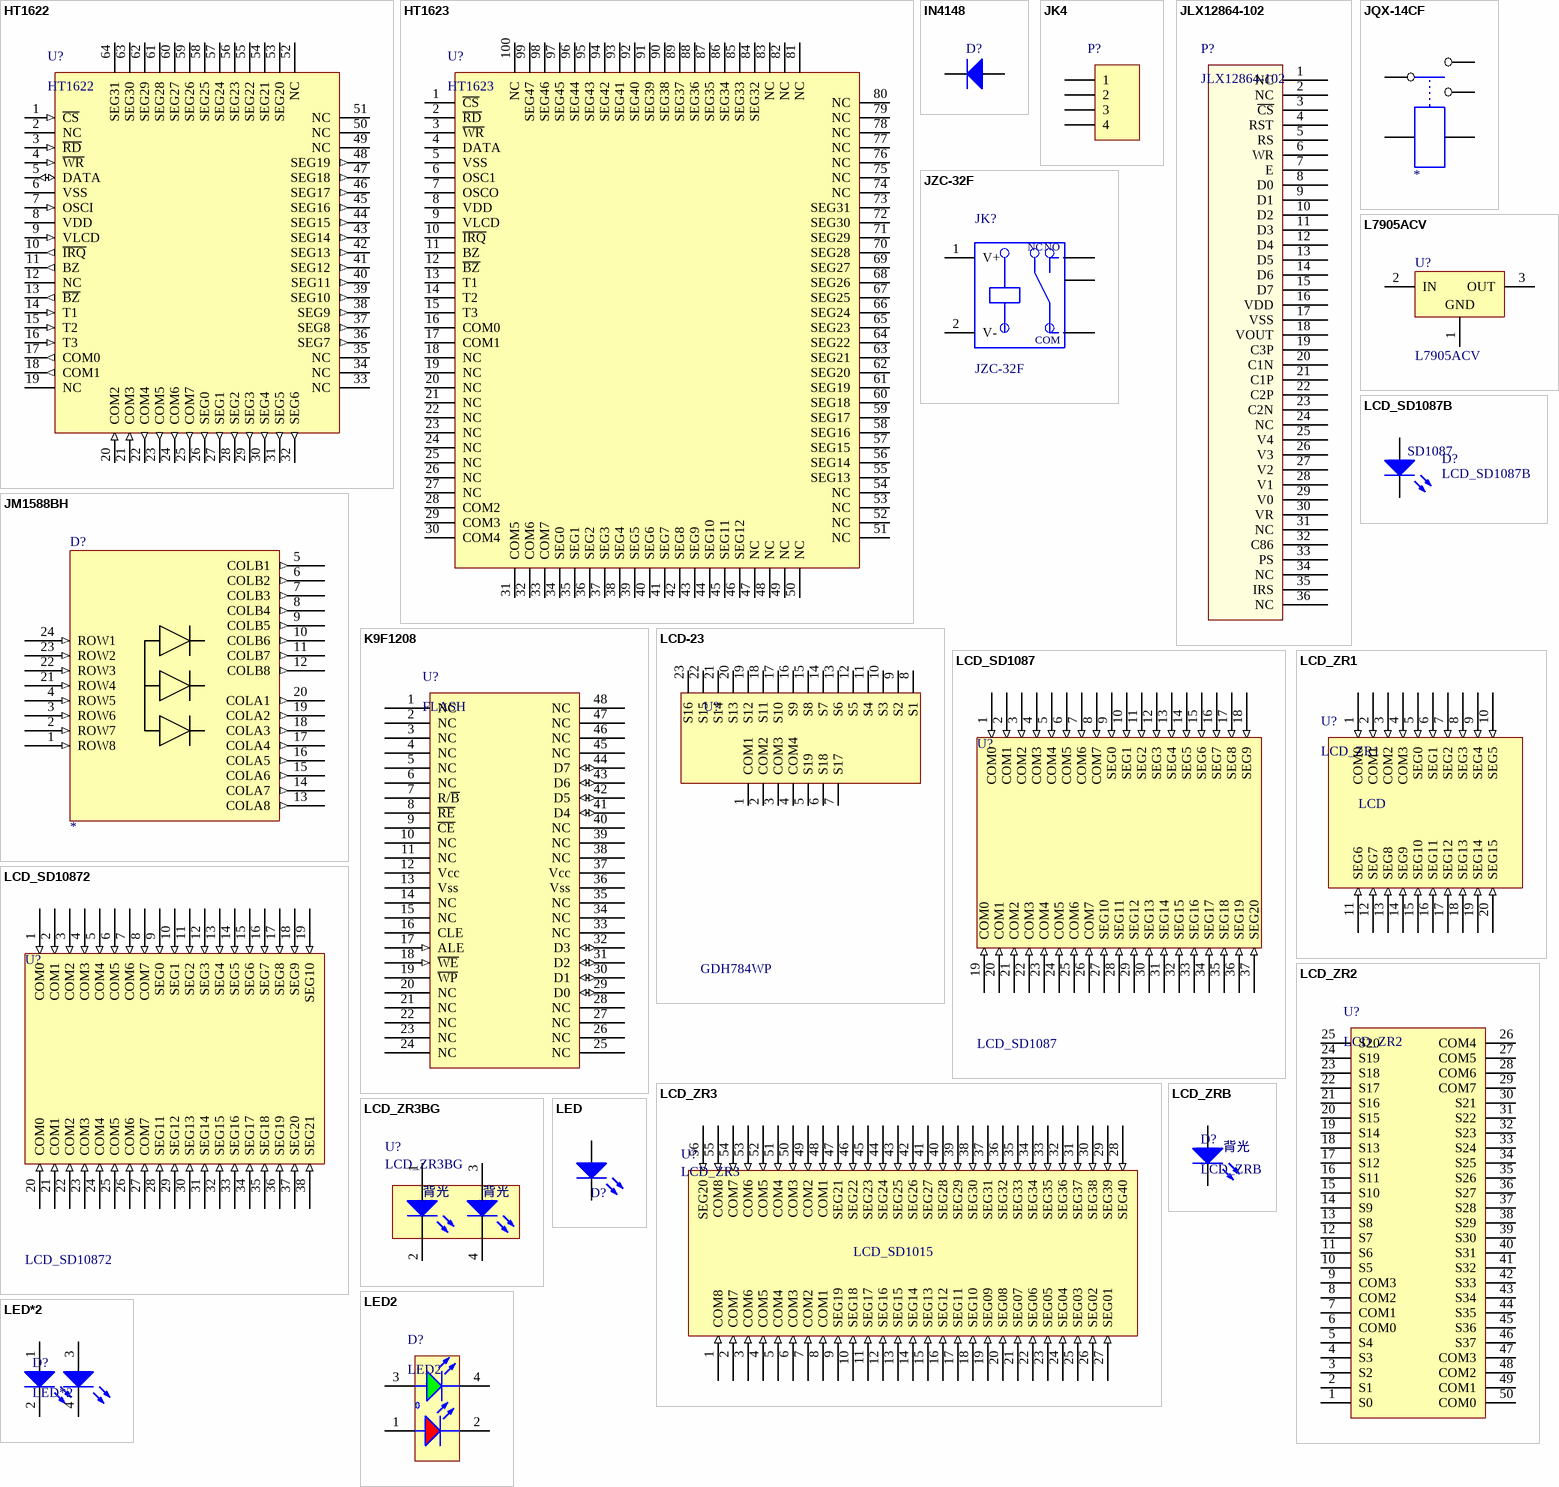
[diagram p3: symbols HT1622 to LED*2]

## HT1622
designator U?
footprint QFP64_HT1622 (HT1622)
pins: 1 ~{CS} (in), 2 NC, 3 ~{RD} (in), 4 ~{WR} (in), 5 DATA (io), 6 VSS (power), 7 OSCI (in), 8 VDD (power), 9 VLCD (in), 10 ~{IRQ} (out), 11 BZ (out), 12 NC, 13 ~{BZ} (out), 14 T1 (in), 15 T2 (in), 16 T3 (in), 17 COM0 (out), 18 COM1 (out), 19 NC, 20 COM2 (in), 21 COM3 (in), 22 COM4 (out), 23 COM5 (out), 24 COM6 (out), 25 COM7 (out), 26 SEG0 (out), 27 SEG1 (out), 28 SEG2 (out), 29 SEG3 (out), 30 SEG4 (out), 31 SEG5 (out), 32 SEG6 (out), 33 NC, 34 NC, 35 NC, 36 SEG7 (out), 37 SEG8 (out), 38 SEG9 (out), 39 SEG10 (out), 40 SEG11 (out), 41 SEG12 (out), 42 SEG13 (out), 43 SEG14 (out), 44 SEG15 (out), 45 SEG16 (out), 46 SEG17 (out), 47 SEG18 (out), 48 SEG19 (out), 49 NC, 50 NC, 51 NC, 52 NC, 53 SEG20, 54 SEG21, 55 SEG22, 56 SEG23, 57 SEG24, 58 SEG25, 59 SEG26, 60 SEG27, 61 SEG28, 62 SEG29, 63 SEG30, 64 SEG31

## HT1623
designator U?
footprint QFP100
pins: 1 ~{CS}, 2 ~{RD}, 3 ~{WR}, 4 DATA, 5 VSS, 6 OSC1, 7 OSCO, 8 VDD, 9 VLCD, 10 ~{IRQ}, 11 BZ, 12 ~{BZ}, 13 T1, 14 T2, 15 T3, 16 COM0, 17 COM1, 18 NC, 19 NC, 20 NC, 21 NC, 22 NC, 23 NC, 24 NC, 25 NC, 26 NC, 27 NC, 28 COM2, 29 COM3, 30 COM4, 31 COM5, 32 COM6, 33 COM7, 34 SEG0, 35 SEG1, 36 SEG2, 37 SEG3, 38 SEG4, 39 SEG5, 40 SEG6, 41 SEG7, 42 SEG8, 43 SEG9, 44 SEG10, 45 SEG11, 46 SEG12, 47 NC, 48 NC, 49 NC, 50 NC, 51 NC, 52 NC, 53 NC, 54 NC, 55 SEG13, 56 SEG14, 57 SEG15, 58 SEG16, 59 SEG17, 60 SEG18, 61 SEG19, 62 SEG20, 63 SEG21, 64 SEG22, 65 SEG23, 66 SEG24, 67 SEG25, 68 SEG26, 69 SEG27, 70 SEG28, 71 SEG29, 72 SEG30, 73 SEG31, 74 NC, 75 NC, 76 NC, 77 NC, 78 NC, 79 NC, 80 NC, 81 NC, 82 NC, 83 NC, 84 SEG32, 85 SEG33, 86 SEG34, 87 SEG35, 88 SEG36, 89 SEG37, 90 SEG38, 91 SEG39, 92 SEG40, 93 SEG41, 94 SEG42, 95 SEG43, 96 SEG44, 97 SEG45, 98 SEG46, 99 SEG47, 100 NC

## IN4148
designator D?  (value not drawn)
footprint LC-0603_LED_S2
pins: A 1, K 2

## JK4
designator P?  (value not drawn)
footprint JK4
pins: 1, 2, 3, 4

## JLX12864-102
designator P?
footprint JK4
pins: 1 NC, 2 NC, 3 ~{CS}, 4 RST, 5 RS, 6 WR, 7 E, 8 D0, 9 D1, 10 D2, 11 D3, 12 D4, 13 D5, 14 D6, 15 D7, 16 VDD, 17 VSS, 18 VOUT, 19 C3P, 20 C1N, 21 C1P, 22 C2P, 23 C2N, 24 NC, 25 V4, 26 V3, 27 V2, 28 V1, 29 V0, 30 VR, 31 NC, 32 C86, 33 PS, 34 NC, 35 IRS, 36 NC

## JM1588BH
designator D?
JM1588单双点阵
pins: 1 ROW8 (in), 2 ROW7 (in), 3 ROW6 (in), 4 ROW5 (in), 5 COLB1 (out), 6 COLB2 (out), 7 COLB3 (out), 8 COLB4 (out), 9 COLB5 (out), 10 COLB6 (out), 11 COLB7 (out), 12 COLB8 (out), 13 COLA8 (out), 14 COLA7 (out), 15 COLA6 (out), 16 COLA5 (out), 17 COLA4 (out), 18 COLA3 (out), 19 COLA2 (out), 20 COLA1 (out), 21 ROW4 (in), 22 ROW3 (in), 23 ROW2 (in), 24 ROW1 (in)

## JQX-14CF
designator ?
pins: 0, 1, 2, 3, 4

## JZC-32F
designator JK?
footprint JQC-3FF
pins: 1 V+ (power), 2 V- (power), COM, NC, NO (power)

## K9F1208
designator U?, comment FLASH
footprint TSOP48
pins: 1 NC, 2 NC, 3 NC, 4 NC, 5 NC, 6 NC, 7 R/~{B}, 8 ~{RE}, 9 ~{CE}, 10 NC, 11 NC, 12 Vcc (power), 13 Vss (power), 14 NC, 15 NC, 16 CLE, 17 ALE (in), 18 ~{WE} (in), 19 ~{WP}, 20 NC, 21 NC, 22 NC, 23 NC, 24 NC, 25 NC, 26 NC, 27 NC, 28 NC, 29 D0 (io), 30 D1 (io), 31 D2 (io), 32 D3 (io), 33 NC, 34 NC, 35 NC, 36 Vss (power), 37 Vcc (power), 38 NC, 39 NC, 40 NC, 41 D4 (io), 42 D5 (io), 43 D6 (io), 44 D7 (io), 45 NC, 46 NC, 47 NC, 48 NC

## L7905ACV
designator U?
Note: Tab is connected to pin 3 (IN).; Published: 24-Aug-2001; LatestRevisionDate: 17-Jul-2002; LatestRevisionNote: Re-released for DXP Platform.; DatasheetVersion: Nov-1999; PackageReference: TO220V; Publisher: Altium Limited; PackageDescription: TO, Thru-Hole, Vertical, Heatsink Mounted; 3 In-Line Leads; Pitch 2.54 mm; Pin sequence 1, 3, 2; ComponentLink1Description: Manufacturer Link; ComponentLink1URL: http://www.st.com/; ComponentLink2Description: Datasheet; ComponentLink2URL: http://www.st.com/stonline/products/literature/ds/2150/l7905ac.pdf
footprint TO-220V
pins: 1 GND (power), 2 IN (power), 3 OUT (power)

## LCD-23
designator U?, comment GDH784WP
footprint LCD-23 (GDH784WP)
pins: 1 COM1, 2 COM2, 3 COM3, 4 COM4, 5 S19, 6 S18, 7 S17, 8 S1, 9 S2, 10 S3, 11 S4, 12 S5, 13 S6, 14 S7, 15 S8, 16 S9, 17 S10, 18 S11, 19 S12, 20 S13, 21 S14, 22 S15, 23 S16
2 alternate drawings of the same symbol

## LCD_SD1087
designator U?
footprint LCD_SD1087
pins: 1 COM0 (in), 2 COM1 (in), 3 COM2 (in), 4 COM3 (in), 5 COM4 (in), 6 COM5 (in), 7 COM6 (in), 8 COM7 (in), 9 SEG0 (in), 10 SEG1 (in), 11 SEG2 (in), 12 SEG3 (in), 13 SEG4 (in), 14 SEG5 (in), 15 SEG6 (in), 16 SEG7 (in), 17 SEG8 (in), 18 SEG9 (in), 19 COM0 (in), 20 COM1 (in), 21 COM2 (in), 22 COM3 (in), 23 COM4 (in), 24 COM5 (in), 25 COM6 (in), 26 COM7 (in), 27 SEG10 (in), 28 SEG11 (in), 29 SEG12 (in), 30 SEG13 (in), 31 SEG14 (in), 32 SEG15 (in), 33 SEG16 (in), 34 SEG17 (in), 35 SEG18 (in), 36 SEG19 (in), 37 SEG20 (in)

## LCD_SD1087B
designator D?
footprint LCD_SD1087B
pins: 1, 2
text: SD1087

## LCD_SD10872
designator U?
footprint LCD_SD10872
pins: 1 COM0 (in), 2 COM1 (in), 3 COM2 (in), 4 COM3 (in), 5 COM4 (in), 6 COM5 (in), 7 COM6 (in), 8 COM7 (in), 9 SEG0 (in), 10 SEG1 (in), 11 SEG2 (in), 12 SEG3 (in), 13 SEG4 (in), 14 SEG5 (in), 15 SEG6 (in), 16 SEG7 (in), 17 SEG8 (in), 18 SEG9 (in), 19 SEG10 (in), 20 COM0 (in), 21 COM1 (in), 22 COM2 (in), 23 COM3 (in), 24 COM4 (in), 25 COM5 (in), 26 COM6 (in), 27 COM7 (in), 28 SEG11 (in), 29 SEG12 (in), 30 SEG13 (in), 31 SEG14 (in), 32 SEG15 (in), 33 SEG16 (in), 34 SEG17 (in), 35 SEG18 (in), 36 SEG19 (in), 37 SEG20 (in), 38 SEG21 (in)

## LCD_ZR1
designator U?
footprint LCD_ZR1
footprint LCD_ZR1
pins: 1 COM0 (in), 2 COM1 (in), 3 COM2 (in), 4 COM3 (in), 5 SEG0 (in), 6 SEG1 (in), 7 SEG2 (in), 8 SEG3 (in), 9 SEG4 (in), 10 SEG5 (in), 11 SEG6 (in), 12 SEG7 (in), 13 SEG8 (in), 14 SEG9 (in), 15 SEG10 (in), 16 SEG11 (in), 17 SEG12 (in), 18 SEG13 (in), 19 SEG14 (in), 20 SEG15 (in)
text: LCD

## LCD_ZR2
designator U?
pins: 1 S0, 2 S1, 3 S2, 4 S3, 5 S4, 6 COM0, 7 COM1, 8 COM2, 9 COM3, 10 S5, 11 S6, 12 S7, 13 S8, 14 S9, 15 S10, 16 S11, 17 S12, 18 S13, 19 S14, 20 S15, 21 S16, 22 S17, 23 S18, 24 S19, 25 S20, 26 COM4, 27 COM5, 28 COM6, 29 COM7, 30 S21, 31 S22, 32 S23, 33 S24, 34 S25, 35 S26, 36 S27, 37 S28, 38 S29, 39 S30, 40 S31, 41 S32, 42 S33, 43 S34, 44 S35, 45 S36, 46 S37, 47 COM3, 48 COM2, 49 COM1, 50 COM0

## LCD_ZR3
designator U?
footprint LCD_ZR3
pins: 1 COM8 (in), 2 COM7 (in), 3 COM6 (in), 4 COM5 (in), 5 COM4 (in), 6 COM3 (in), 7 COM2 (in), 8 COM1 (in), 9 SEG19 (in), 10 SEG18 (in), 11 SEG17 (in), 12 SEG16 (in), 13 SEG15 (in), 14 SEG14 (in), 15 SEG13 (in), 16 SEG12 (in), 17 SEG11 (in), 18 SEG10 (in), 19 SEG09 (in), 20 SEG08 (in), 21 SEG07 (in), 22 SEG06 (in), 23 SEG05 (in), 24 SEG04 (in), 25 SEG03 (in), 26 SEG02 (in), 27 SEG01 (in), 28 SEG40 (in), 29 SEG39 (in), 30 SEG38 (in), 31 SEG37 (in), 32 SEG36 (in), 33 SEG35 (in), 34 SEG34 (in), 35 SEG33 (in), 36 SEG32 (in), 37 SEG31 (in), 38 SEG30 (in), 39 SEG29 (in), 40 SEG28 (in), 41 SEG27 (in), 42 SEG26 (in), 43 SEG25 (in), 44 SEG24 (in), 45 SEG23 (in), 46 SEG22 (in), 47 SEG21 (in), 48 COM1 (in), 49 COM2 (in), 50 COM3 (in), 51 COM4 (in), 52 COM5 (in), 53 COM6 (in), 54 COM7 (in), 55 COM8 (in), 56 SEG20 (in)
text: LCD_SD1015

## LCD_ZR3BG
designator U?
footprint LCD_ZR3BG
pins: 1, 2, 3, 4
text: 背光

## LCD_ZRB
designator D?
footprint LCD_ZRB
pins: 1, 2
text: 背光

## LED
designator D?  (value not drawn)
footprint LC-0805_LED
pins: A 1, K 2

## LED2
designator D?
footprint LED*2A
pins: 1, 2, 3, 4

## LED*2
designator D?
footprint D_LED*2
footprint LED*2
pins: 1, 2, 3, 4

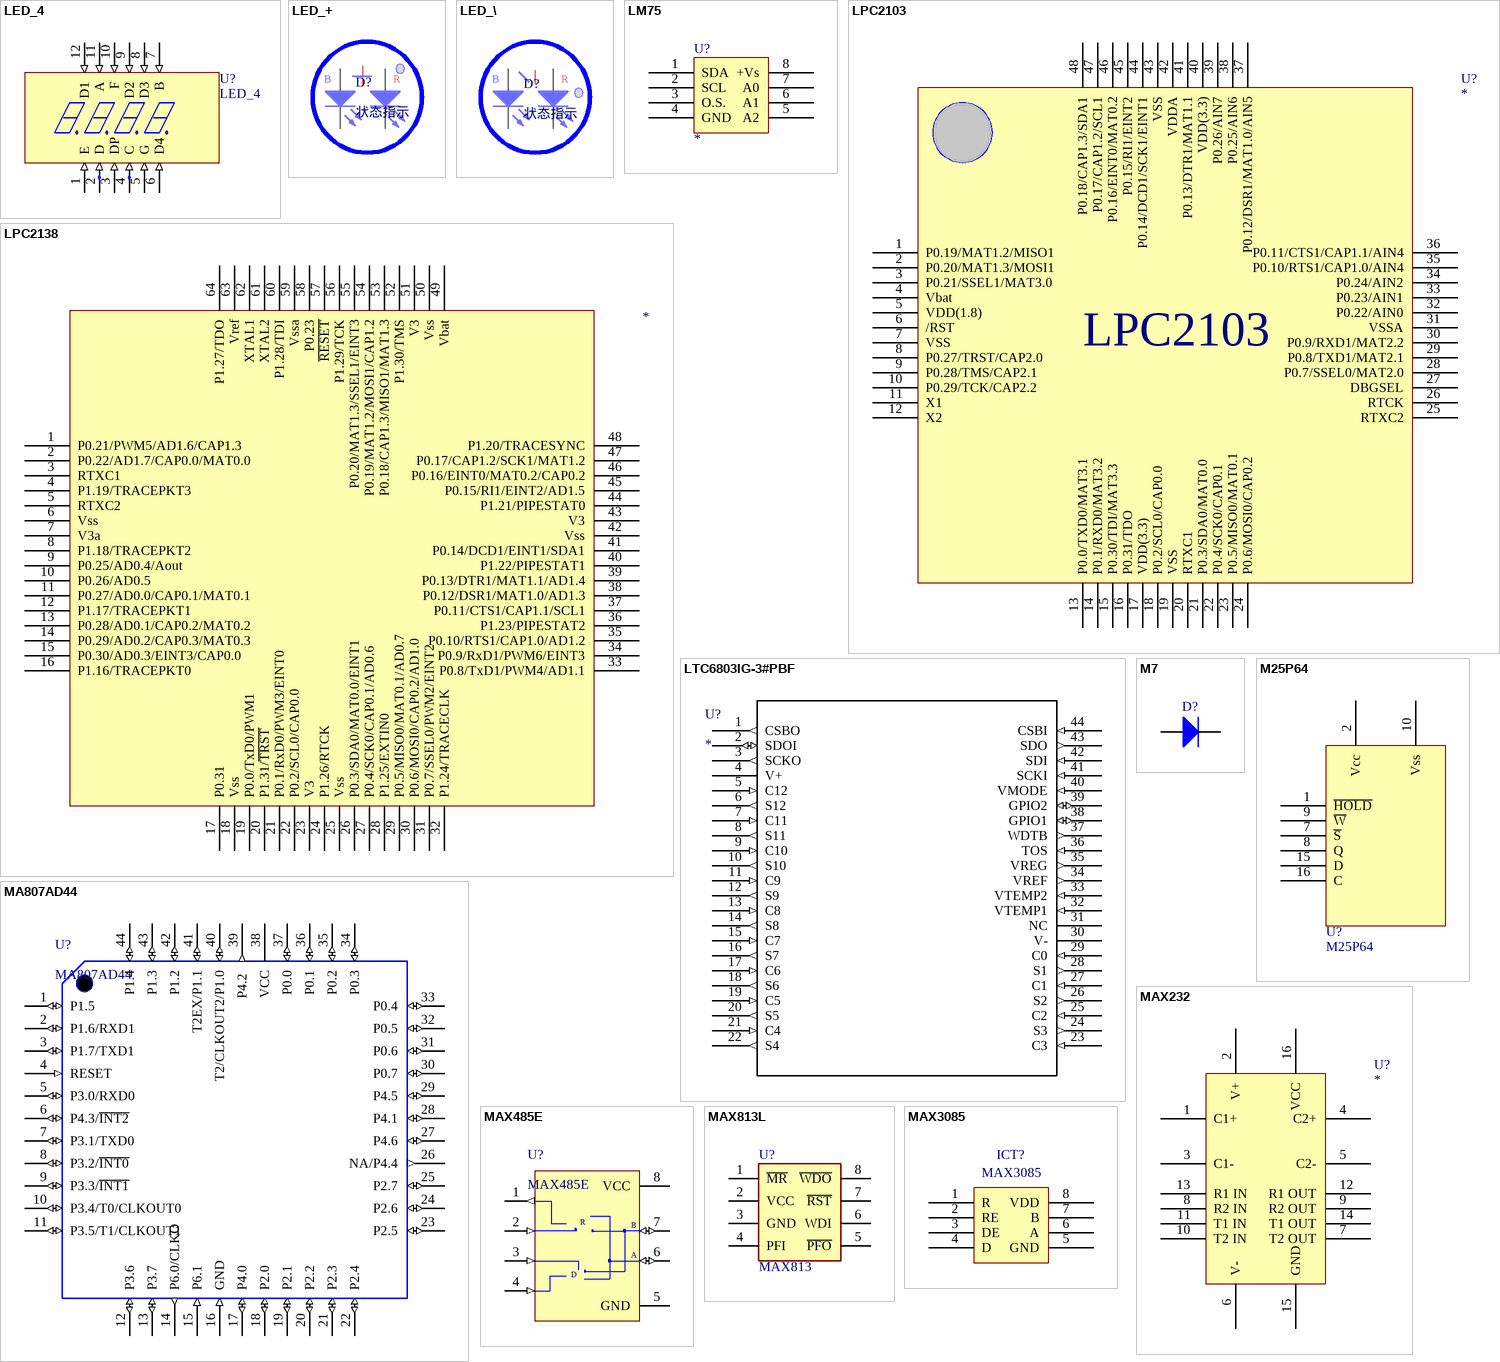
[diagram p4: symbols LED_4 to MAX3085]

## LED_4
designator U?
footprint LED_4X
footprint LED_4D
pins: 1 E (in), 2 D (in), 3 DP (in), 4 C (in), 5 G (in), 6 D4 (in), 7 B (in), 8 D3 (in), 9 D2 (in), 10 F (in), 11 A (in), 12 D1 (in)

## LED_+
designator D?, comment 状态指示
footprint LED_+
footprint LED_+
pins: 1, 2, 3, 4
text: B; R

## LED_\
designator D?, comment 状态指示
footprint LED_\
pins: 1, 2, 3, 4
text: B; R

## LM75
designator U?
footprint SO-8
pins: 1 SDA, 2 SCL, 3 O.S., 4 GND, 5 A2, 6 A1, 7 A0, 8 +Vs

## LPC2103
designator U?
pins: 1 P0.19/MAT1.2/MISO1, 2 P0.20/MAT1.3/MOSI1, 3 P0.21/SSEL1/MAT3.0, 4 Vbat, 5 VDD(1.8), 6 /RST, 7 VSS, 8 P0.27/TRST/CAP2.0, 9 P0.28/TMS/CAP2.1, 10 P0.29/TCK/CAP2.2, 11 X1, 12 X2, 13 P0.0/TXD0/MAT3.1, 14 P0.1/RXD0/MAT3.2, 15 P0.30/TDI/MAT3.3, 16 P0.31/TDO, 17 VDD(3.3), 18 P0.2/SCL0/CAP0.0, 19 VSS, 20 RTXC1, 21 P0.3/SDA0/MAT0.0, 22 P0.4/SCK0/CAP0.1, 23 P0.5/MISO0/MAT0.1, 24 P0.6/MOSI0/CAP0.2, 25 RTXC2, 26 RTCK, 27 DBGSEL, 28 P0.7/SSEL0/MAT2.0, 29 P0.8/TXD1/MAT2.1, 30 P0.9/RXD1/MAT2.2, 31 VSSA, 32 P0.22/AIN0, 33 P0.23/AIN1, 34 P0.24/AIN2, 35 P0.10/RTS1/CAP1.0/AIN4, 36 P0.11/CTS1/CAP1.1/AIN4, 37 P0.12/DSR1/MAT1.0/AIN5, 38 P0.25/AIN6, 39 P0.26/AIN7, 40 VDD(3.3), 41 P0.13/DTR1/MAT1.1, 42 VDDA, 43 VSS, 44 P0.14/DCD1/SCK1/EINT1, 45 P0.15/RI1/EINT2, 46 P0.16/EINT0/MAT0.2, 47 P0.17/CAP1.2/SCL1, 48 P0.18/CAP1.3/SDA1

## LPC2138
designator ?
pins: 1 P0.21/PWM5/AD1.6/CAP1.3, 2 P0.22/AD1.7/CAP0.0/MAT0.0, 3 RTXC1, 4 P1.19/TRACEPKT3, 5 RTXC2, 6 Vss, 7 V3a, 8 P1.18/TRACEPKT2, 9 P0.25/AD0.4/Aout, 10 P0.26/AD0.5, 11 P0.27/AD0.0/CAP0.1/MAT0.1, 12 P1.17/TRACEPKT1, 13 P0.28/AD0.1/CAP0.2/MAT0.2, 14 P0.29/AD0.2/CAP0.3/MAT0.3, 15 P0.30/AD0.3/EINT3/CAP0.0, 16 P1.16/TRACEPKT0, 17 P0.31, 18 Vss, 19 P0.0/TxD0/PWM1, 20 P1.31/~{TRST}, 21 P0.1/RxD0/PWM3/EINT0, 22 P0.2/SCL0/CAP0.0, 23 V3, 24 P1.26/RTCK, 25 Vss, 26 P0.3/SDA0/MAT0.0/EINT1, 27 P0.4/SCK0/CAP0.1/AD0.6, 28 P1.25/EXTIN0, 29 P0.5/MISO0/MAT0.1/AD0.7, 30 P0.6/MOSI0/CAP0.2/AD1.0, 31 P0.7/SSEL0/PWM2/EINT2, 32 P1.24/TRACECLK, 33 P0.8/TxD1/PWM4/AD1.1, 34 P0.9/RxD1/PWM6/EINT3, 35 P0.10/RTS1/CAP1.0/AD1.2, 36 P1.23/PIPESTAT2, 37 P0.11/CTS1/CAP1.1/SCL1, 38 P0.12/DSR1/MAT1.0/AD1.3, 39 P0.13/DTR1/MAT1.1/AD1.4, 40 P1.22/PIPESTAT1, 41 P0.14/DCD1/EINT1/SDA1, 42 Vss, 43 V3, 44 P1.21/PIPESTAT0, 45 P0.15/RI1/EINT2/AD1.5, 46 P0.16/EINT0/MAT0.2/CAP0.2, 47 P0.17/CAP1.2/SCK1/MAT1.2, 48 P1.20/TRACESYNC, 49 Vbat, 50 Vss, 51 V3, 52 P1.30/TMS, 53 P0.18/CAP1.3/MISO1/MAT1.3, 54 P0.19/MAT1.2/MOSI1/CAP1.2, 55 P0.20/MAT1.3/SSEL1/EINT3, 56 P1.29/TCK, 57 ~{RESET}, 58 P0.23, 59 Vssa, 60 P1.28/TDI, 61 XTAL2, 62 XTAL1, 63 Vref, 64 P1.27/TDO

## LTC6803IG-3#PBF
designator U?
Imported; Manufacturer_Part_Number: ltc6803ig-3#pbf; Vendor: Linear Technology; RefDes: RefDes; Type: DEV; Value: Value
footprint SSOP-44_G
pins: 1 CSBO (out), 2 SDOI (io), 3 SCKO (out), 4 V+ (power), 5 C12 (in), 6 S12 (out), 7 C11 (in), 8 S11 (out), 9 C10 (in), 10 S10 (out), 11 C9 (in), 12 S9 (out), 13 C8 (in), 14 S8 (out), 15 C7 (in), 16 S7 (out), 17 C6 (in), 18 S6 (out), 19 C5 (in), 20 S5 (out), 21 C4 (in), 22 S4 (out), 23 C3 (in), 24 S3 (out), 25 C2 (in), 26 S2 (out), 27 C1 (in), 28 S1 (out), 29 C0 (in), 30 V- (power), 31 NC, 32 VTEMP1 (in), 33 VTEMP2 (in), 34 VREF (out), 35 VREG (out), 36 TOS (in), 37 WDTB (out), 38 GPIO1 (io), 39 GPIO2 (io), 40 VMODE (in), 41 SCKI (in), 42 SDI (in), 43 SDO (out), 44 CSBI (in)

## M7
designator D?  (value not drawn)
footprint 1206D
pins: 1, 2

## M25P64
designator U?
footprint SO-16 (Footprint not found)
pins: 1 ~{HOLD}, 2 Vcc (power), 3 DU (power) hidden, 4 DU (power) hidden, 5 DU (power) hidden, 6 DU (power) hidden, 7 ~{S} (power), 8 Q (power), 9 ~{W} (power), 10 Vss (power), 11 DU (power) hidden, 12 DU (power) hidden, 13 DU (power) hidden, 14 DU (power) hidden, 15 D (power), 16 C (power)

## MA807AD44
designator U?
footprint LQFP-44
pins: 1 P1.5 (io), 2 P1.6/RXD1 (io), 3 P1.7/TXD1 (io), 4 RESET (in), 5 P3.0/RXD0 (io), 6 P4.3/~{INT2} (io), 7 P3.1/TXD0 (io), 8 P3.2/~{INT0} (io), 9 P3.3/~{INT1} (io), 10 P3.4/T0/CLKOUT0 (io), 11 P3.5/T1/CLKOUT1 (io), 12 P3.6  (io), 13 P3.7  (io), 14 P6.0/CLKO  (out), 15 P6.1 (in), 16 GND (in), 17 P4.0 (io), 18 P2.0  (io), 19 P2.1  (io), 20 P2.2 (io), 21 P2.3  (io), 22 P2.4  (io), 23 P2.5 (io), 24 P2.6 (io), 25 P2.7 (io), 26 NA/P4.4 (out), 27 P4.6 (io), 28 P4.1 (io), 29 P4.5 (io), 30 P0.7 (io), 31 P0.6 (io), 32 P0.5 (io), 33 P0.4 (io), 34 P0.3 (io), 35 P0.2 (io), 36 P0.1 (io), 37 P0.0 (io), 38 VCC (power), 39 P4.2  (out), 40 T2/CLKOUT2/P1.0 (io), 41 T2EX/P1.1 (io), 42 P1.2 (io), 43 P1.3 (io), 44 P1.4 (io)

## MAX232
designator U?
pins: 1 C1+, 2 V+, 3 C1-, 4 C2+, 5 C2-, 6 V-, 7 T2 OUT, 8 R2 IN, 9 R2 OUT, 10 T2 IN, 11 T1 IN, 12 R1 OUT, 13 R1 IN, 14 T1 OUT, 15 GND (power), 16 VCC (power)

## MAX485E
designator U?
footprint SO8
pins: 1 RO (out), 2 ~{RE} (in), 3 DE (in), 4 DI (in), 5 GND (power), 6 A (io), 7 B (io), 8 VCC (power)
text: R; D

## MAX813L
designator U?, comment MAX813
pins: 1 ~{MR}, 2 VCC, 3 GND, 4 PFI, 5 ~{PFO}, 6 WDI, 7 ~{RST}, 8 ~{WDO}
1 alternate drawing of the same symbol

## MAX3085
designator ICT?
footprint SO-8
pins: 1 R, 2 RE, 3 DE, 4 D, 5 GND, 6 A, 7 B, 8 VDD
2 alternate drawings of the same symbol

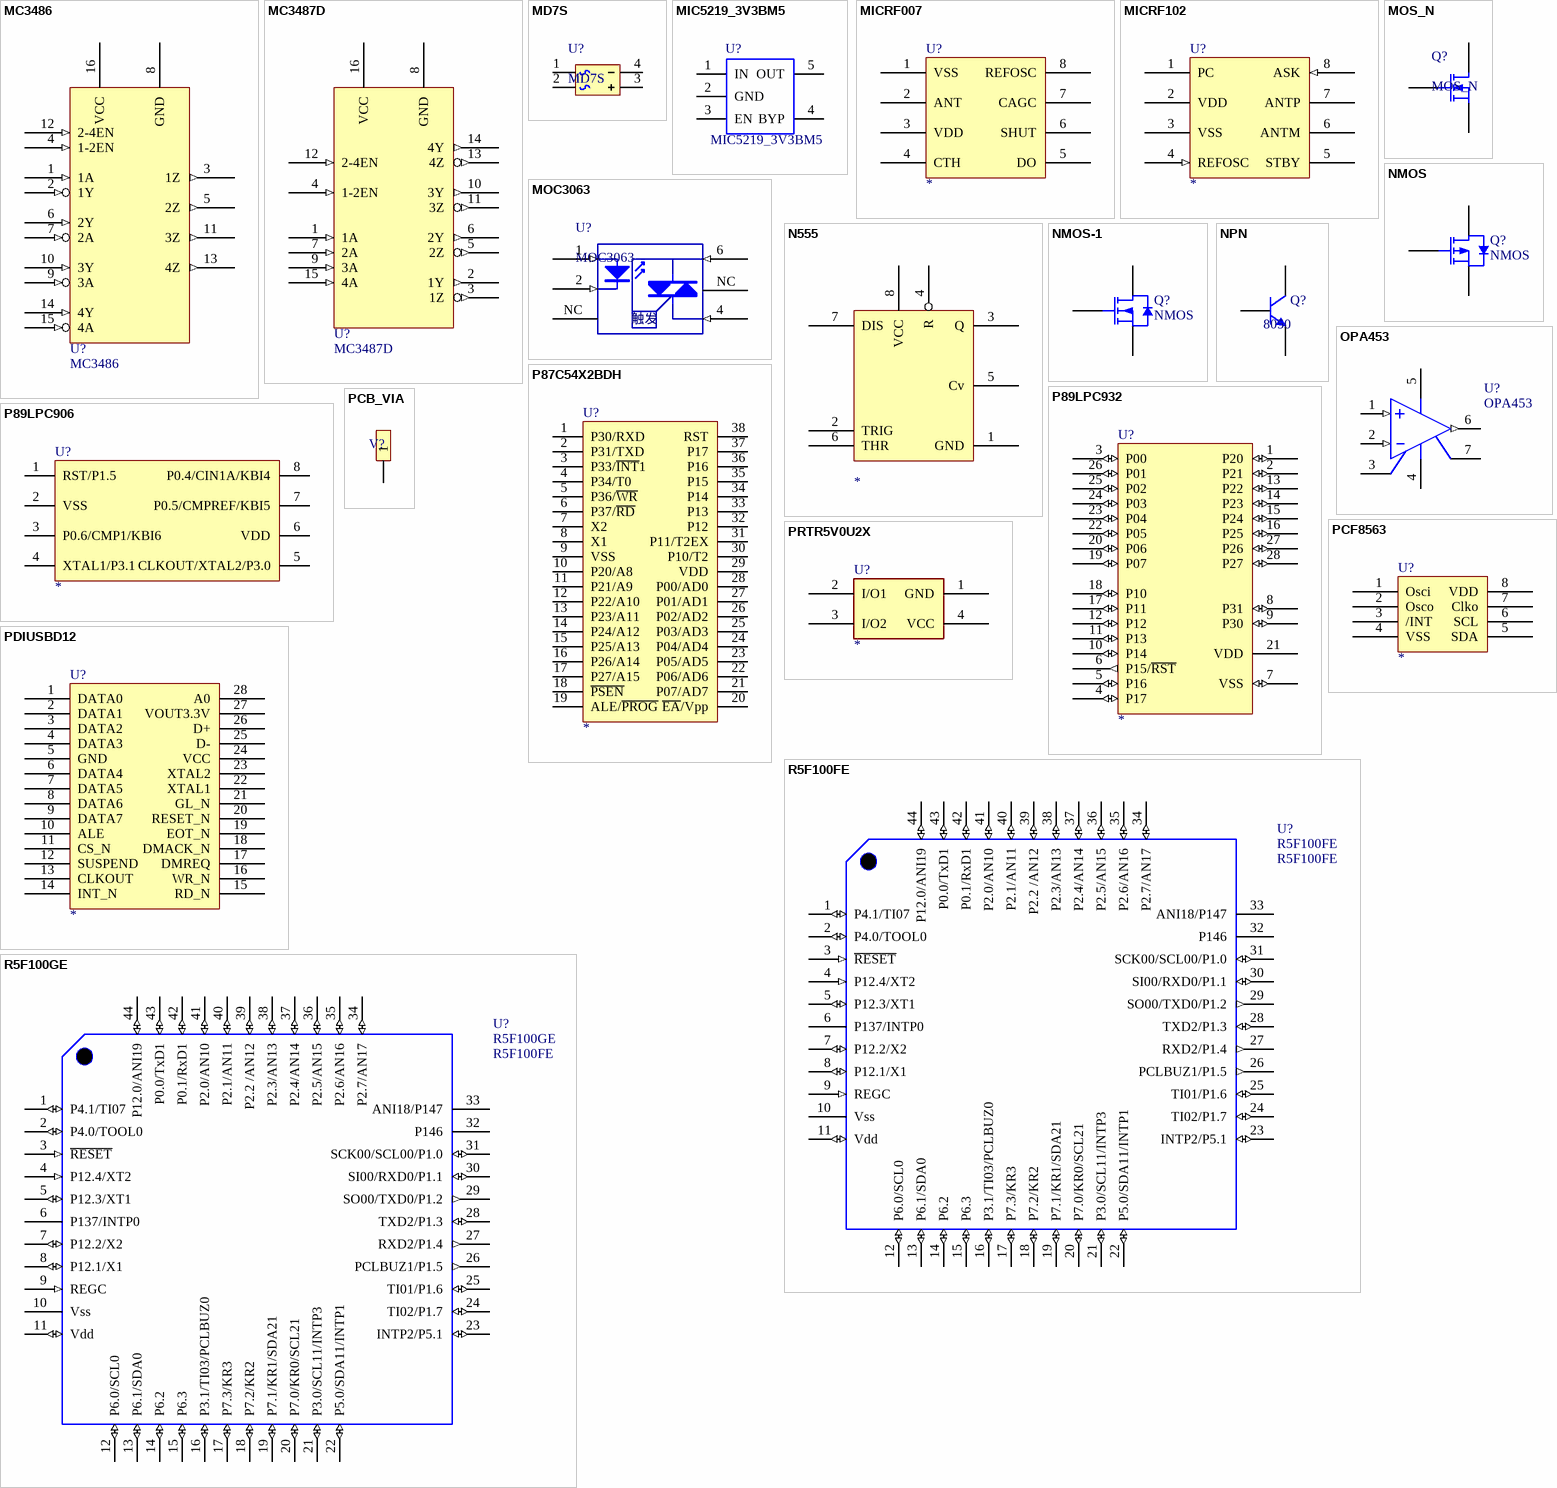
[diagram p5: symbols MC3486 to R5F100GE]

## MC3486
designator U?
footprint SO-16 (Footprint not found)
pins: 1 1A (in), 2 1Y (in), 3 1Z (out), 4 1-2EN (in), 5 2Z (out), 6 2Y (in), 7 2A (in), 8 GND (power), 9 3A (in), 10 3Y (in), 11 3Z (out), 12 2-4EN (in), 13 4Z (out), 14 4Y (in), 15 4A (in), 16 VCC (power)

## MC3487D
designator U?
footprint SO-16 (Footprint not found)
pins: 1 1A (in), 2 1Y (out), 3 1Z (out), 4 1-2EN (in), 5 2Z (out), 6 2Y (out), 7 2A (in), 8 GND (power), 9 3A (in), 10 3Y (out), 11 3Z (out), 12 2-4EN (in), 13 4Z (out), 14 4Y (out), 15 4A (in), 16 VCC (power)

## MD7S
designator U?
footprint MD7S (SOP, 4-Leads, Body 4.9x4.0mm (max), Pitch 2.74mm, IPC Low Density)
pins: 1, 2, 3, 4

## MIC5219_3V3BM5
designator U?
footprint SOT23-5L
pins: 1 IN, 2 GND, 3 EN, 4 BYP, 5 OUT

## MICRF007
designator U?
pins: 1 VSS (power), 2 ANT, 3 VDD (power), 4 CTH, 5 DO, 6 SHUT, 7 CAGC, 8 REFOSC

## MICRF102
designator U?
pins: 1 PC, 2 VDD, 3 VSS (power), 4 REFOSC (in), 5 STBY, 6 ANTM, 7 ANTP, 8 ASK (in)

## MOC3063
designator U?
footprint OPT_6
pins: 1 ANODE (in), 2 CATHODE (in), 4 MAIN TERM (in), 6 MAIN TERM (in), NC 3, NC 5
text: 触发

## MOS_N
designator Q?
footprint TO229 (D-PAK, 3-Pads, Body 6.2x6.7mm (max), IPC Low Density)
pins: 1 G, 3 S, 4 D

## N555
designator ?
pins: 1 GND (power), 2 TRIG, 3 Q, 4 R, 5 Cv, 6 THR, 7 DIS, 8 VCC (power)

## NMOS
designator Q?
20V P-Channel Enhancement Mode MOSFET; DatasheetVersion: Jul-99; PackageReference: SOT23; PackageDescription: SOT-23; 3 Leads; Body 3.1 x 2.5 mm, inc. leads (LxW max), Alternate Lead Configuration; ComponentLink1Description: Manufacturer Link; ComponentLink1URL: http://www.zetex.com/; ComponentLink2Description: Datasheet; ComponentLink2URL: www.zetex.com/3.0/pdf/ZXM61P02F.pdf
footprint LC-SOT-23-3
pins: 1 G, 2 S, 3 D

## NMOS-1
designator Q?, comment NMOS
20V P-Channel Enhancement Mode MOSFET; DatasheetVersion: Jul-99; PackageReference: SOT23; PackageDescription: SOT-23; 3 Leads; Body 3.1 x 2.5 mm, inc. leads (LxW max), Alternate Lead Configuration; ComponentLink1Description: Manufacturer Link; ComponentLink1URL: http://www.zetex.com/; ComponentLink2Description: Datasheet; ComponentLink2URL: www.zetex.com/3.0/pdf/ZXM61P02F.pdf
footprint LC-SOT-23-3
pins: 1 G, 2 S, 3 D

## NPN
designator Q?, comment 8050
footprint SOT-23
pins: 1, 2, 3

## OPA453
designator U?
Wide-Bandwidth JFET Input Operational Amplifier
footprint TO-220_7
pins: 1 IN+ (in), 2 IN- (in), 3 NC, 4 V- (power), 5 V+ (power), 6 OUT (out), 7 Flag

## P87C54X2BDH
designator U?
footprint TSSOP-38
pins: 1 P30/RXD, 2 P31/TXD, 3 P33/~{INT}1, 4 P34/T0, 5 P36/~{WR}, 6 P37/~{RD}, 7 X2, 8 X1, 9 VSS, 10 P20/A8, 11 P21/A9, 12 P22/A10, 13 P23/A11, 14 P24/A12, 15 P25/A13, 16 P26/A14, 17 P27/A15, 18 ~{PSEN}, 19 ALE/~{PROG}, 20 ~{EA}/Vpp, 21 P07/AD7, 22 P06/AD6, 23 P05/AD5, 24 P04/AD4, 25 P03/AD3, 26 P02/AD2, 27 P01/AD1, 28 P00/AD0, 29 VDD, 30 P10/T2, 31 P11/T2EX, 32 P12, 33 P13, 34 P14, 35 P15, 36 P16, 37 P17, 38 RST

## P89LPC906
designator U?
footprint SO-8
pins: 1 RST/P1.5, 2 VSS, 3 P0.6/CMP1/KBI6, 4 XTAL1/P3.1, 5 CLKOUT/XTAL2/P3.0, 6 VDD, 7 P0.5/CMPREF/KBI5, 8 P0.4/CIN1A/KBI4

## P89LPC932
designator U?
footprint TSSOP-28
footprint PLCC-28
pins: 1 P20 (io), 2 P21 (io), 3 P00 (io), 4 P17 (io), 5 P16 (io), 6 P15/~{RST} (out), 7 VSS (io), 8 P31 (io), 9 P30 (io), 10 P14 (io), 11 P13 (io), 12 P12 (io), 13 P22 (io), 14 P23 (io), 15 P24 (io), 16 P25 (io), 17 P11 (io), 18 P10 (io), 19 P07 (io), 20 P06 (io), 21 VDD (power), 22 P05 (io), 23 P04 (io), 24 P03 (io), 25 P02 (io), 26 P01 (io), 27 P26 (io), 28 P27 (io)

## PCB_VIA
designator V?, comment via  (value not drawn)
footprint PCB_Via
pins: 1

## PCF8563
designator U?
footprint SO-8
pins: 1 Osci, 2 Osco, 3 /INT, 4 VSS, 5 SDA, 6 SCL, 7 Clko, 8 VDD

## PDIUSBD12
designator U?
footprint TSSOP-28
pins: 1 DATA0, 2 DATA1, 3 DATA2, 4 DATA3, 5 GND, 6 DATA4, 7 DATA5, 8 DATA6, 9 DATA7, 10 ALE, 11 CS_N, 12 SUSPEND, 13 CLKOUT, 14 INT_N, 15 RD_N, 16 WR_N, 17 DMREQ, 18 DMACK_N, 19 EOT_N, 20 RESET_N, 21 GL_N, 22 XTAL1, 23 XTAL2, 24 VCC, 25 D-, 26 D+, 27 VOUT3.3V, 28 A0

## PRTR5V0U2X
designator U?
footprint SOT-143B
pins: 1 GND, 2 I/O1, 3 I/O2, 4 VCC

## R5F100FE
designator U?
Supplier 1: Digi-Key; Supplier Part Number 1: R5F100FE
footprint QFP10X10-G44/P.8N
pins: 1 P4.1/TI07 (io), 2 P4.0/TOOL0 (io), 3 ~{RESET} (in), 4 P12.4/XT2 (in), 5 P12.3/XT1 (io), 6 P137/INTP0, 7 P12.2/X2 (io), 8 P12.1/X1 (io), 9 REGC (in), 10 Vss (power), 11 Vdd (io), 12 P6.0/SCL0 (io), 13 P6.1/SDA0 (io), 14 P6.2 (io), 15 P6.3 (io), 16 P3.1/TI03/PCLBUZ0 (io), 17 P7.3/KR3 (io), 18 P7.2/KR2 (io), 19 P7.1/KR1/SDA21 (io), 20 P7.0/KR0/SCL21 (io), 21 P3.0/SCL11/INTP3 (io), 22 P5.0/SDA11/INTP1 (io), 23 INTP2/P5.1 (io), 24 TI02/P1.7 (io), 25 TI01/P1.6 (io), 26 PCLBUZ1/P1.5 (out), 27 RXD2/P1.4 (out), 28 TXD2/P1.3 (io), 29 SO00/TXD0/P1.2 (out), 30 SI00/RXD0/P1.1 (io), 31 SCK00/SCL00/P1.0 (io), 32 P146 (power), 33 ANI18/P147 (power), 34 P2.7/AN17 (io), 35 P2.6/AN16 (io), 36 P2.5/AN15 (io), 37 P2.4/AN14 (io), 38 P2.3/AN13 (io), 39 P2.2 /AN12 (io), 40 P2.1/AN11 (io), 41 P2.0/AN10 (io), 42 P0.1/RxD1 (io), 43 P0.0/TxD1 (io), 44 P12.0/ANI19 (io)

## R5F100GE
designator U?  Supplier Part Number 1: R5F100FE
Supplier 1: Digi-Key
footprint QFP10X10-G44/P.8N
pins: 1 P4.1/TI07 (io), 2 P4.0/TOOL0 (io), 3 ~{RESET} (in), 4 P12.4/XT2 (in), 5 P12.3/XT1 (io), 6 P137/INTP0, 7 P12.2/X2 (io), 8 P12.1/X1 (io), 9 REGC (in), 10 Vss (power), 11 Vdd (io), 12 P6.0/SCL0 (io), 13 P6.1/SDA0 (io), 14 P6.2 (io), 15 P6.3 (io), 16 P3.1/TI03/PCLBUZ0 (io), 17 P7.3/KR3 (io), 18 P7.2/KR2 (io), 19 P7.1/KR1/SDA21 (io), 20 P7.0/KR0/SCL21 (io), 21 P3.0/SCL11/INTP3 (io), 22 P5.0/SDA11/INTP1 (io), 23 INTP2/P5.1 (io), 24 TI02/P1.7 (io), 25 TI01/P1.6 (io), 26 PCLBUZ1/P1.5 (out), 27 RXD2/P1.4 (out), 28 TXD2/P1.3 (io), 29 SO00/TXD0/P1.2 (out), 30 SI00/RXD0/P1.1 (io), 31 SCK00/SCL00/P1.0 (io), 32 P146 (power), 33 ANI18/P147 (power), 34 P2.7/AN17 (io), 35 P2.6/AN16 (io), 36 P2.5/AN15 (io), 37 P2.4/AN14 (io), 38 P2.3/AN13 (io), 39 P2.2 /AN12 (io), 40 P2.1/AN11 (io), 41 P2.0/AN10 (io), 42 P0.1/RxD1 (io), 43 P0.0/TxD1 (io), 44 P12.0/ANI19 (io)

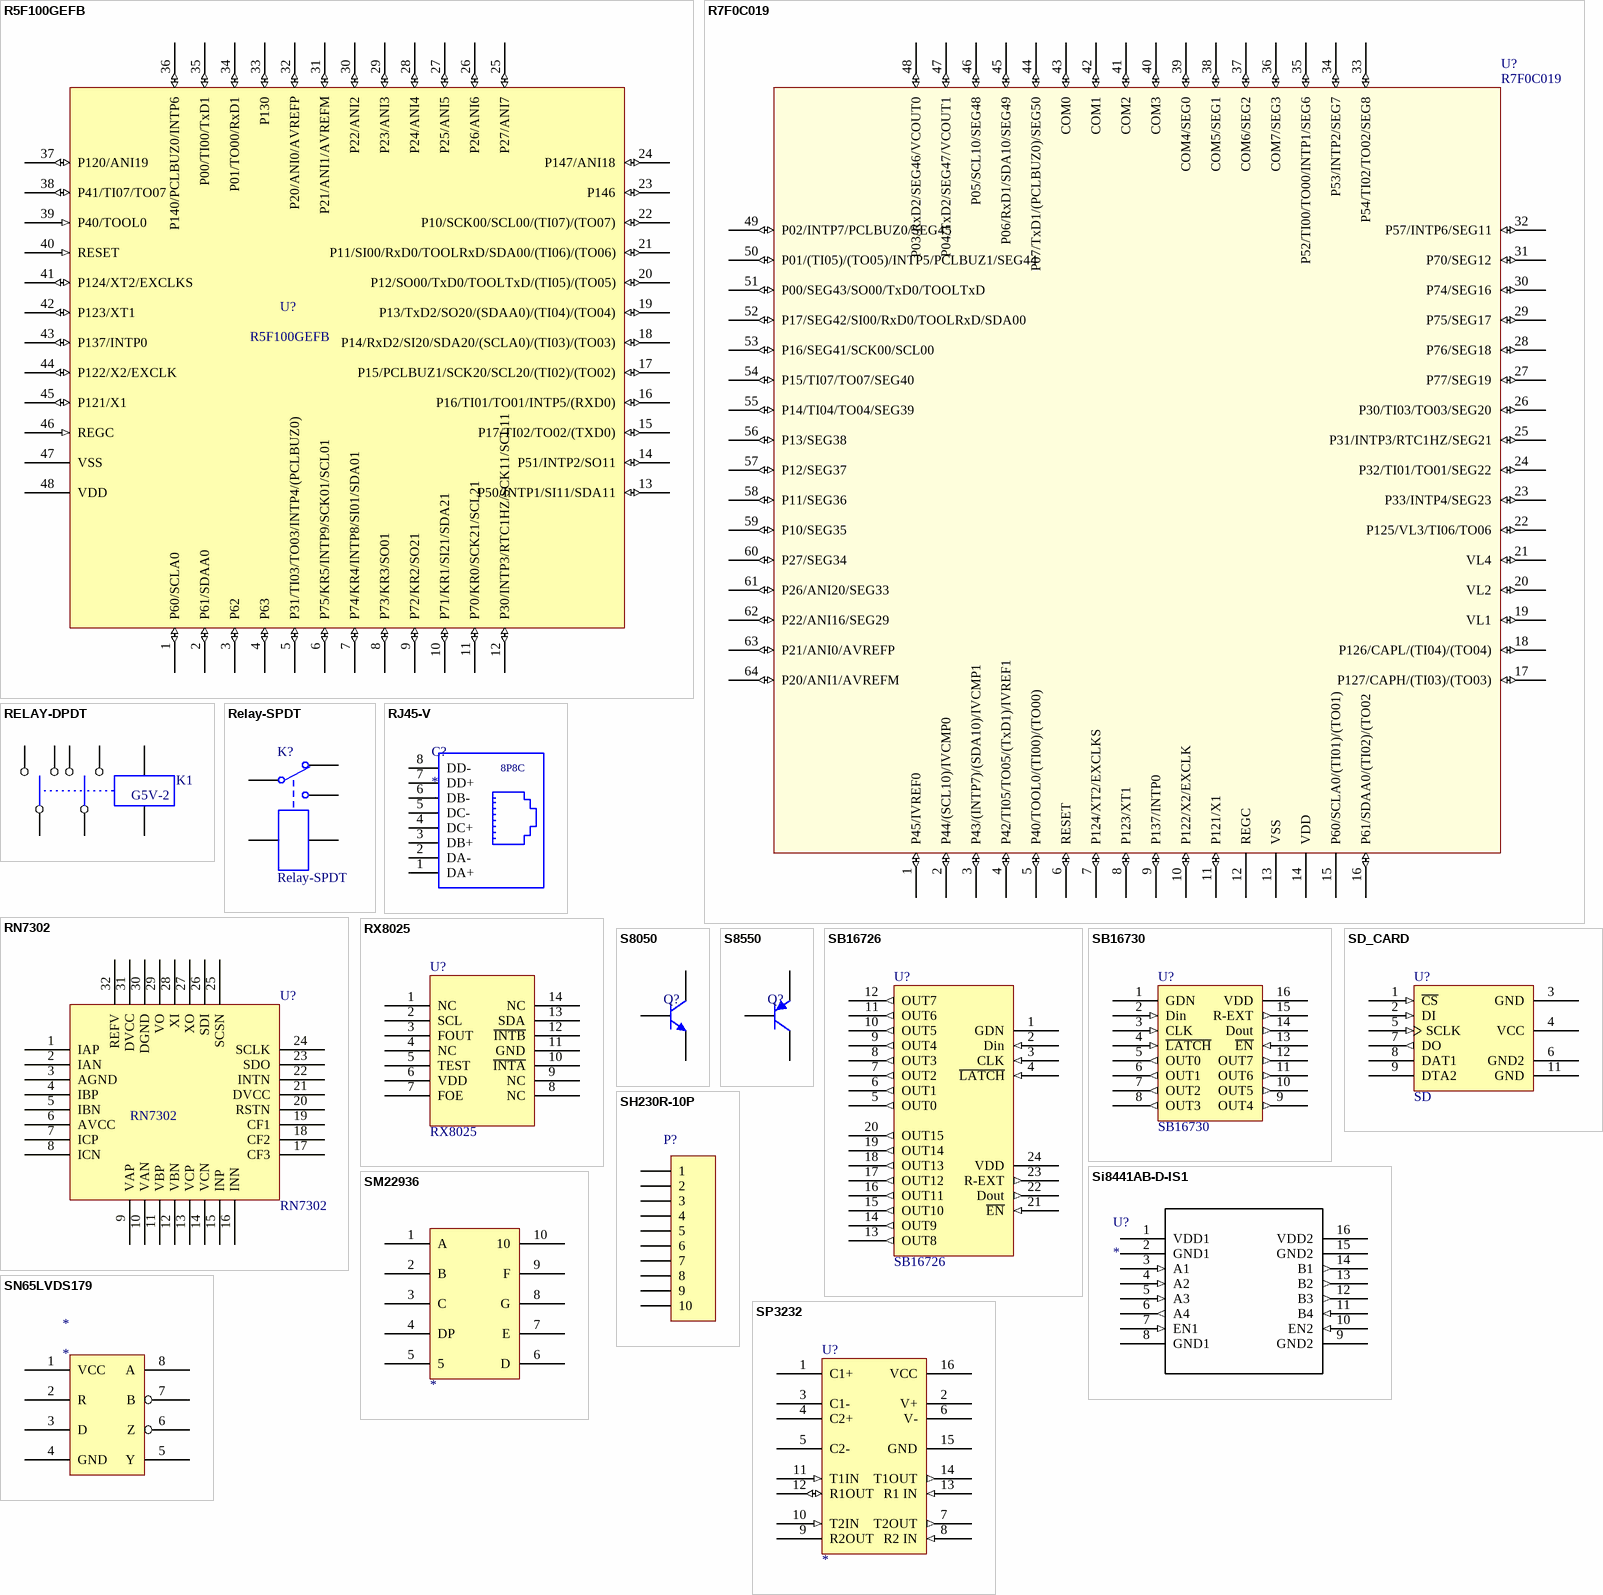
[diagram p6: symbols R5F100GEFB to SP3232]

## R5F100GEFB
designator U?
footprint LQFP48
pins: 1 P60/SCLA0 (io), 2 P61/SDAA0 (io), 3 P62 (io), 4 P63 (io), 5 P31/TI03/TO03/INTP4/(PCLBUZ0) (io), 6 P75/KR5/INTP9/SCK01/SCL01 (io), 7 P74/KR4/INTP8/SI01/SDA01 (io), 8 P73/KR3/SO01 (io), 9 P72/KR2/SO21 (io), 10 P71/KR1/SI21/SDA21 (io), 11 P70/KR0/SCK21/SCL21 (io), 12 P30/INTP3/RTC1HZ/SCK11/SCL11 (io), 13 P50/INTP1/SI11/SDA11 (io), 14 P51/INTP2/SO11 (io), 15 P17/TI02/TO02/(TXD0) (io), 16 P16/TI01/TO01/INTP5/(RXD0) (io), 17 P15/PCLBUZ1/SCK20/SCL20/(TI02)/(TO02) (io), 18 P14/RxD2/SI20/SDA20/(SCLA0)/(TI03)/(TO03) (io), 19 P13/TxD2/SO20/(SDAA0)/(TI04)/(TO04) (io), 20 P12/SO00/TxD0/TOOLTxD/(TI05)/(TO05) (io), 21 P11/SI00/RxD0/TOOLRxD/SDA00/(TI06)/(TO06) (io), 22 P10/SCK00/SCL00/(TI07)/(TO07) (io), 23 P146 (io), 24 P147/ANI18 (io), 25 P27/ANI7 (io), 26 P26/ANI6 (io), 27 P25/ANI5 (io), 28 P24/ANI4 (io), 29 P23/ANI3 (io), 30 P22/ANI2 (io), 31 P21/ANI1/AVREFM (io), 32 P20/ANI0/AVREFP (io), 33 P130 (io), 34 P01/TO00/RxD1 (io), 35 P00/TI00/TxD1 (io), 36 P140/PCLBUZ0/INTP6 (io), 37 P120/ANI19 (io), 38 P41/TI07/TO07 (io), 39 P40/TOOL0 (in), 40 RESET (in), 41 P124/XT2/EXCLKS (io), 42 P123/XT1 (io), 43 P137/INTP0 (io), 44 P122/X2/EXCLK (io), 45 P121/X1 (io), 46 REGC (in), 47 VSS (power), 48 VDD (power)

## R7F0C019
designator U?
footprint LC-LQFP-64_10x10x05P
pins: 1 P45/IVREF0 (io), 2 P44/(SCL10)/IVCMP0 (io), 3 P43/(INTP7)/(SDA10)/IVCMP1 (io), 4 P42/TI05/TO05/(TxD1)/IVREF1 (io), 5 P40/TOOL0/(TI00)/(TO00) (io), 6 RESET (io), 7 P124/XT2/EXCLKS (io), 8 P123/XT1 (io), 9 P137/INTP0 (io), 10 P122/X2/EXCLK (io), 11 P121/X1 (io), 12 REGC (power), 13 VSS (power), 14 VDD (power), 15 P60/SCLA0/(TI01)/(TO01) (power), 16 P61/SDAA0/(TI02)/(TO02 (io), 17 P127/CAPH/(TI03)/(TO03) (io), 18 P126/CAPL/(TI04)/(TO04) (io), 19 VL1 (io), 20 VL2 (io), 21 VL4 (io), 22 P125/VL3/TI06/TO06 (io), 23 P33/INTP4/SEG23 (io), 24 P32/TI01/TO01/SEG22 (io), 25 P31/INTP3/RTC1HZ/SEG21 (io), 26 P30/TI03/TO03/SEG20 (io), 27 P77/SEG19 (io), 28 P76/SEG18 (io), 29 P75/SEG17 (io), 30 P74/SEG16 (io), 31 P70/SEG12 (io), 32 P57/INTP6/SEG11 (io), 33 P54/TI02/TO02/SEG8 (io), 34 P53/INTP2/SEG7 (io), 35 P52/TI00/TO00/INTP1/SEG6 (io), 36 COM7/SEG3 (io), 37 COM6/SEG2 (io), 38 COM5/SEG1 (io), 39 COM4/SEG0 (io), 40 COM3 (io), 41 COM2 (io), 42 COM1 (io), 43 COM0 (io), 44 P07/TxD1/(PCLBUZ0)/SEG50 (io), 45 P06/RxD1/SDA10/SEG49 (io), 46 P05/SCL10/SEG48 (io), 47 P04/TxD2/SEG47/VCOUT1 (io), 48 P03/RxD2/SEG46/VCOUT0 (io), 49 P02/INTP7/PCLBUZ0/SEG45 (io), 50 P01/(TI05)/(TO05)/INTP5/PCLBUZ1/SEG44 (io), 51 P00/SEG43/SO00/TxD0/TOOLTxD (io), 52 P17/SEG42/SI00/RxD0/TOOLRxD/SDA00 (io), 53 P16/SEG41/SCK00/SCL00 (io), 54 P15/TI07/TO07/SEG40 (io), 55 P14/TI04/TO04/SEG39 (io), 56 P13/SEG38 (io), 57 P12/SEG37 (io), 58 P11/SEG36 (io), 59 P10/SEG35 (io), 60 P27/SEG34 (io), 61 P26/ANI20/SEG33 (io), 62 P22/ANI16/SEG29 (io), 63 P21/ANI0/AVREFP (io), 64 P20/ANI1/AVREFM (io)

## RELAY-DPDT
designator K1, comment G5V-2
footprint G5V-2
pins: 1, 2, 3, 4, 5, 6, 7, 8

## Relay-SPDT
designator K?
Single-Pole Dual-Throw Relay; Published: 24-Mar-1999; LatestRevisionDate: 17-Jul-2002; LatestRevisionNote: Re-released for DXP Platform.; PackageReference: MODULE5B; Publisher: Altium Limited
footprint JDQ_HF32FA
pins: 1, 2, 3, 4, 5

## RJ45-V
designator C?
WR-COM Modular Jack RJ45 Vertical; Manufacturer: Würth Elektronik eiSos GmbH; partNo: 615008138021; ComponentLink1 Description: Manufacturer; ComponentLink2 Description: Datasheet; NoPins: 8; ComponentLink1URL: http://www.we-online.de; ComponentLink2URL: http://katalog.we-online.de/em/datasheet/615008138021.pdf; Created by: Karrer Zheng; Created Date: 10/27/2014
footprint RJ45-V (RJ45 Vertical)
pins: 1 DA+, 2 DA-, 3 DB+, 4 DC+, 5 DC-, 6 DB-, 7 DD+, 8 DD-
text: 8P8C

## RN7302
designator U?
footprint LQFP32
footprint RN-LQFP32
pins: 1 IAP, 2 IAN, 3 AGND, 4 IBP, 5 IBN, 6 AVCC, 7 ICP, 8 ICN, 9 VAP, 10 VAN, 11 VBP, 12 VBN, 13 VCP, 14 VCN, 15 INP, 16 INN, 17 CF3, 18 CF2, 19 CF1, 20 RSTN, 21 DVCC, 22 INTN, 23 SDO, 24 SCLK, 25 SCSN, 26 SDI, 27 XO, 28 XI, 29 VO, 30 DGND, 31 DVCC, 32 REFV
2 alternate drawings of the same symbol

## RX8025
designator U?
U?
footprint RX8025 (Footprint not found)
pins: 1 NC, 2 SCL, 3 FOUT, 4 NC, 5 TEST, 6 VDD, 7 FOE, 8 NC, 9 NC, 10 ~{INTA}, 11 GND, 12 ~{INTB}, 13 SDA, 14 NC

## S8050
designator Q?  (value not drawn)
footprint LC-SOT-23-3
pins: 1, 2, 3

## S8550
designator Q?  (value not drawn)
footprint LC-SOT-23-3
pins: 1, 2, 3

## SB16726
designator U?
footprint SSOP24 (Footprint not found)
pins: 1 GDN (power), 2 Din (in), 3 CLK (in), 4 ~{LATCH} (in), 5 OUT0 (out), 6 OUT1 (out), 7 OUT2 (out), 8 OUT3 (out), 9 OUT4 (out), 10 OUT5 (out), 11 OUT6 (out), 12 OUT7 (out), 13 OUT8 (out), 14 OUT9 (out), 15 OUT10 (out), 16 OUT11 (out), 17 OUT12 (out), 18 OUT13 (out), 19 OUT14 (out), 20 OUT15 (out), 21 ~{EN} (in), 22 Dout (out), 23 R-EXT (out), 24 VDD (power)

## SB16730
designator U?
footprint Model Name (Footprint not found)
footprint SSOP20 (Footprint not found)
pins: 1 GDN (power), 2 Din (in), 3 CLK (in), 4 ~{LATCH} (in), 5 OUT0 (out), 6 OUT1 (out), 7 OUT2 (out), 8 OUT3 (out), 9 OUT4 (out), 10 OUT5 (out), 11 OUT6 (out), 12 OUT7 (out), 13 ~{EN} (in), 14 Dout (out), 15 R-EXT (out), 16 VDD (power)

## SD_CARD
designator U?, comment SD
footprint SD_CARD2
pins: 1 ~{CS} (in), 2 DI (in), 3 GND (power), 4 VCC (power), 5 SCLK (in), 6 GND2 (power), 7 DO (out), 8 DAT1, 9 DTA2, 11 GND (power)

## SH230R-10P
designator P?, comment SH230R-5.08  (value not drawn)
footprint SH230V-10P-5.08
pins: 1, 2, 3, 4, 5, 6, 7, 8, 9, 10

## Si8441AB-D-IS1
designator U?
Imported; RefDes: RefDes; Type: DEV; Value: Value
footprint SOIC-16
pins: 1 VDD1, 2 GND1, 3 A1 (in), 4 A2 (in), 5 A3 (in), 6 A4 (out), 7 EN1 (in), 8 GND1, 9 GND2, 10 EN2 (in), 11 B4 (in), 12 B3 (out), 13 B2 (out), 14 B1 (out), 15 GND2, 16 VDD2

## SM22936
designator ?
pins: 1 A, 2 B, 3 C, 4 DP, 5, 6 D, 7 E, 8 G, 9 F, 10

## SN65LVDS179
designator *
pins: 1 VCC (power), 2 R, 3 D, 4 GND (power), 5 Y, 6 Z, 7 B, 8 A

## SP3232
designator U?
+-15KV ESD-PROTECTED, +5V RS-232 TRANSCEIVERS
footprint SO-16
pins: 1 C1+, 2 V+ (power), 3 C1-, 4 C2+, 5 C2-, 6 V- (power), 7 T2OUT (out), 8 R2 IN (in), 9 R2OUT, 10 T2IN (in), 11 T1IN (in), 12 R1OUT (io), 13 R1 IN (in), 14 T1OUT (out), 15 GND (power), 16 VCC (power)

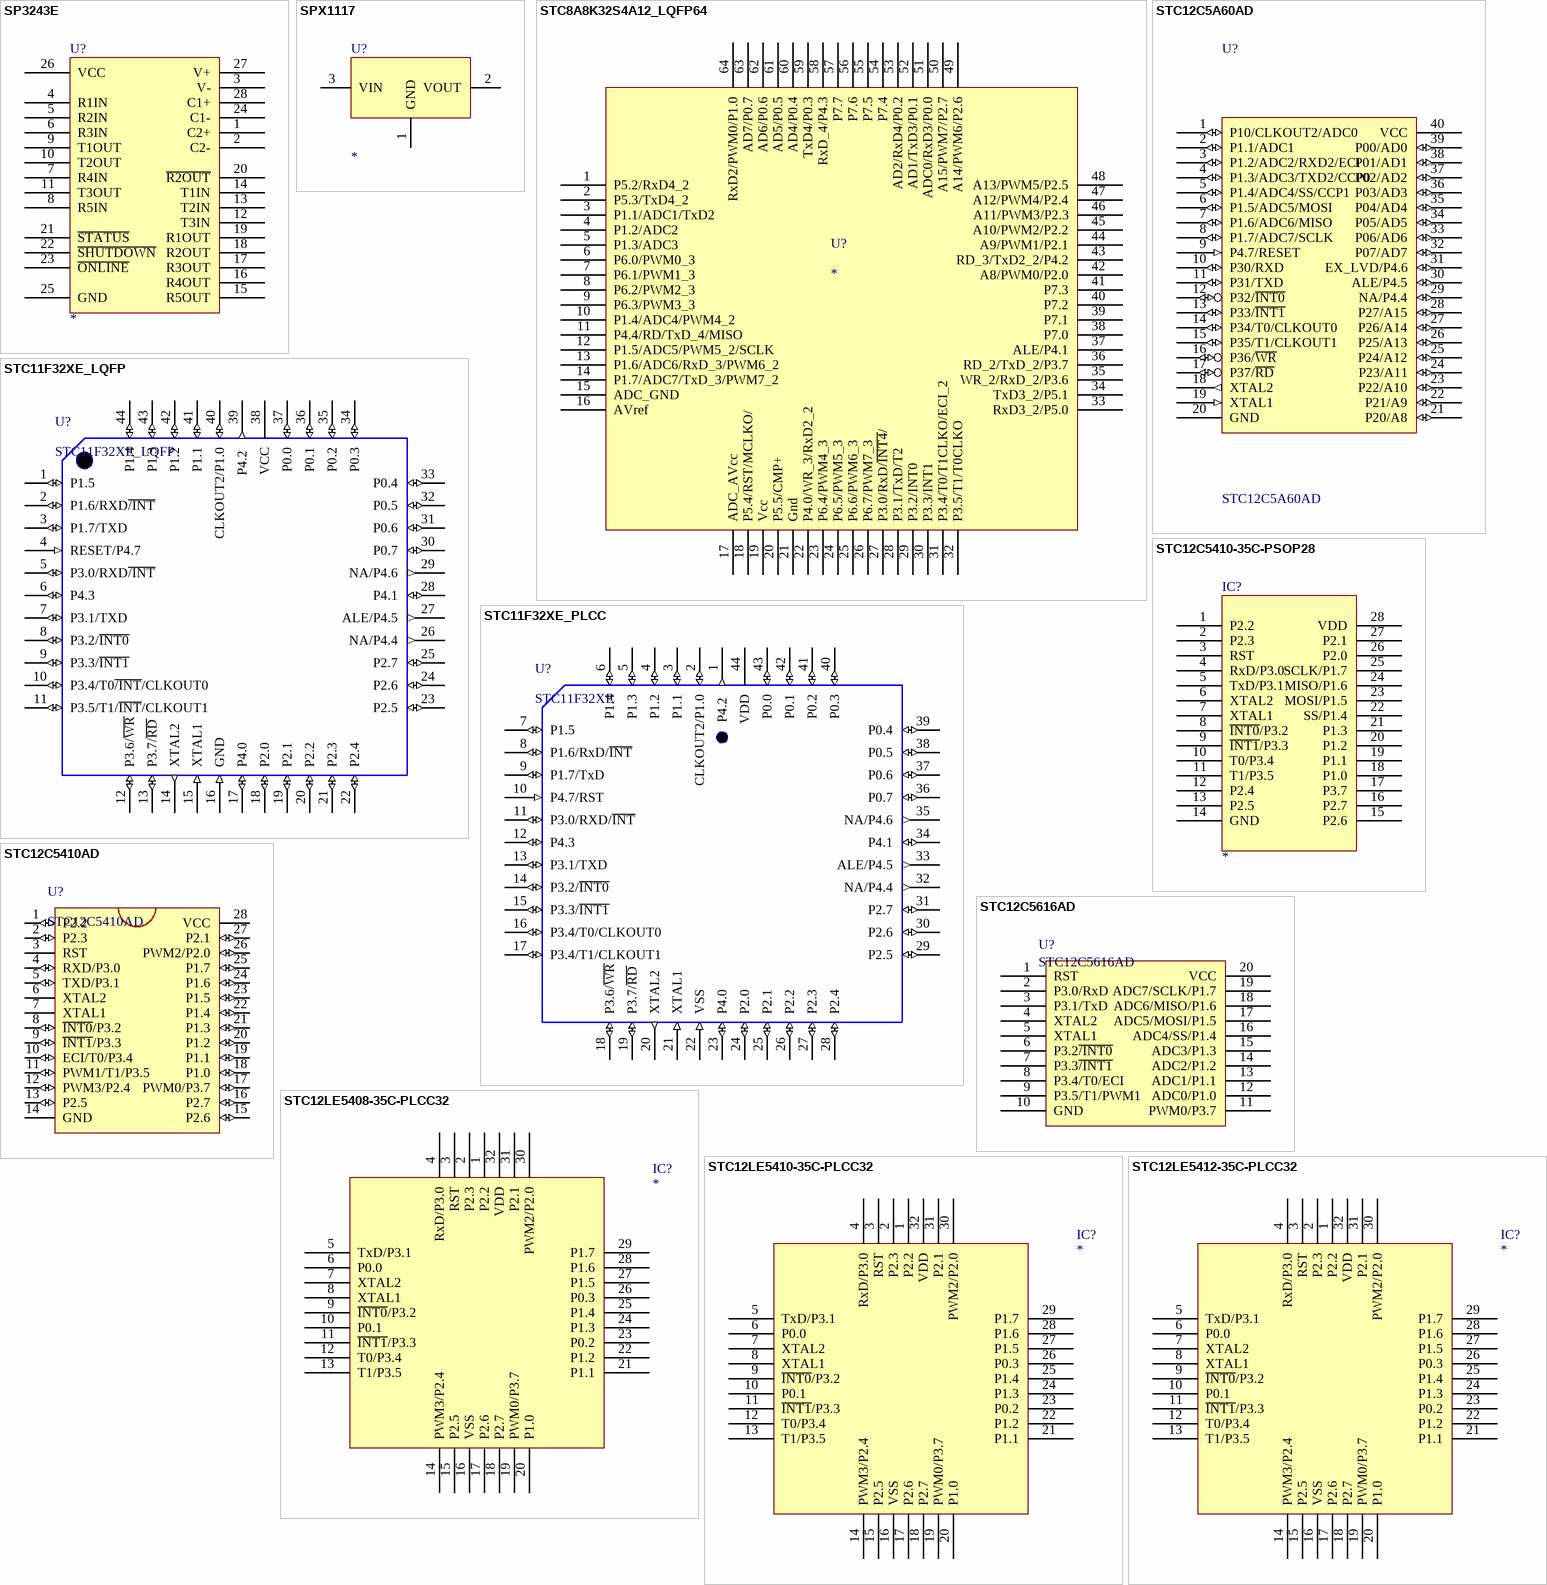
[diagram p7: symbols SP3243E to STC12LE5412-35C-PLCC32]

## SP3243E
designator U?
footprint SSOP-28
pins: 1 C2+, 2 C2-, 3 V-, 4 R1IN, 5 R2IN, 6 R3IN, 7 R4IN, 8 R5IN, 9 T1OUT, 10 T2OUT, 11 T3OUT, 12 T3IN, 13 T2IN, 14 T1IN, 15 R5OUT, 16 R4OUT, 17 R3OUT, 18 R2OUT, 19 R1OUT, 20 ~{R2OUT}, 21 ~{STATUS}, 22 ~{SHUTDOWN}, 23 ~{ONLINE}, 24 C1-, 25 GND, 26 VCC, 27 V+, 28 C1+

## SPX1117
designator U?
footprint SOT-223
pins: 1 GND, 2 VOUT, 3 VIN

## STC8A8K32S4A12_LQFP64
designator U?
footprint LQFP64S
pins: 1 P5.2/RxD4_2, 2 P5.3/TxD4_2, 3 P1.1/ADC1/TxD2, 4 P1.2/ADC2 , 5 P1.3/ADC3, 6 P6.0/PWM0_3, 7 P6.1/PWM1_3, 8 P6.2/PWM2_3, 9 P6.3/PWM3_3, 10 P1.4/ADC4/PWM4_2, 11 P4.4/RD/TxD_4/MISO, 12 P1.5/ADC5/PWM5_2/SCLK, 13 P1.6/ADC6/RxD_3/PWM6_2, 14 P1.7/ADC7/TxD_3/PWM7_2, 15 ADC_GND (power), 16 AVref (power), 17 ADC_AVcc, 18 P5.4/RST/MCLKO/ , 19 Vcc, 20 P5.5/CMP+, 21 Gnd, 22 P4.0/WR_3/RxD2_2, 23 P6.4/PWM4_3, 24 P6.5/PWM5_3, 25 P6.6/PWM6_3, 26 P6.7/PWM7_3, 27 P3.0/RxD/~{INT4}/ , 28 P3.1/TxD/T2, 29 P3.2/INT0, 30 P3.3/INT1, 31 P3.4/T0/T1CLKO/ECI_2, 32 P3.5/T1/T0CLKO, 33 RxD3_2/P5.0, 34 TxD3_2/P5.1, 35 WR_2/RxD_2/P3.6, 36 RD_2/TxD_2/P3.7, 37 ALE/P4.1, 38 P7.0, 39 P7.1, 40 P7.2, 41 P7.3, 42 A8/PWM0/P2.0, 43 RD_3/TxD2_2/P4.2, 44 A9/PWM1/P2.1, 45 A10/PWM2/P2.2, 46 A11/PWM3/P2.3, 47 A12/PWM4/P2.4, 48 A13/PWM5/P2.5, 49 A14/PWM6/P2.6, 50 A15/PWM7/P2.7, 51 ADC0/RxD3/P0.0, 52 AD1/TxD3/P0.1, 53 AD2/RxD4/P0.2, 54 P7.4, 55 P7.5, 56 P7.6, 57 P7.7, 58 RxD_4/P4.3, 59 TxD4/P0.3, 60 AD4/P0.4, 61 AD5/P0.5, 62 AD6/P0.6, 63 AD7/P0.7, 64 RxD2/PWM0/P1.0

## STC11F32XE_LQFP
designator U?
footprint QFP44
pins: 1 P1.5 (io), 2 P1.6/RXD~{/INT} (io), 3 P1.7/TXD (io), 4 RESET/P4.7 (in), 5 P3.0/RXD~{/INT} (io), 6 P4.3 (io), 7 P3.1/TXD (io), 8 P3.2/~{INT0} (io), 9 P3.3/~{INT1} (io), 10 P3.4/T0~{/INT}/CLKOUT0 (io), 11 P3.5/T1/~{INT}/CLKOUT1 (io), 12 P3.6/~{WR} (io), 13 P3.7/~{RD} (io), 14 XTAL2 (out), 15 XTAL1 (in), 16 GND (in), 17 P4.0 (io), 18 P2.0  (io), 19 P2.1  (io), 20 P2.2 (io), 21 P2.3  (io), 22 P2.4  (io), 23 P2.5 (io), 24 P2.6 (io), 25 P2.7 (io), 26 NA/P4.4 (out), 27 ALE/P4.5 (out), 28 P4.1 (io), 29 NA/P4.6 (out), 30 P0.7 (io), 31 P0.6 (io), 32 P0.5 (io), 33 P0.4 (io), 34 P0.3 (io), 35 P0.2 (io), 36 P0.1 (io), 37 P0.0 (io), 38 VCC (power), 39 P4.2  (out), 40 CLKOUT2/P1.0 (io), 41 P1.1 (io), 42 P1.2 (io), 43 P1.3 (io), 44 P1.4 (io)

## STC11F32XE_PLCC
designator U?, comment STC11F32XE
pins: 1 P4.2  (out), 2 CLKOUT2/P1.0 (io), 3 P1.1 (io), 4 P1.2 (io), 5 P1.3 (io), 6 P1.4 (io), 7 P1.5 (io), 8 P1.6/RxD/~{INT} (io), 9 P1.7/TxD (io), 10 P4.7/RST (in), 11 P3.0/RXD/~{INT} (io), 12 P4.3  (io), 13 P3.1/TXD (io), 14 P3.2/~{INT0} (io), 15 P3.3/~{INT1} (io), 16 P3.4/T0/CLKOUT0 (io), 17 P3.4/T1/CLKOUT1 (io), 18 P3.6/~{WR} (io), 19 P3.7/~{RD} (io), 20 XTAL2 (out), 21 XTAL1 (in), 22 VSS (in), 23 P4.0 (io), 24 P2.0  (io), 25 P2.1  (io), 26 P2.2  (io), 27 P2.3  (io), 28 P2.4  (io), 29 P2.5 (io), 30 P2.6 (io), 31 P2.7 (io), 32 NA/P4.4 (out), 33 ALE/P4.5 (out), 34 P4.1 (io), 35 NA/P4.6 (out), 36 P0.7 (io), 37 P0.6 (io), 38 P0.5 (io), 39 P0.4 (io), 40 P0.3 (io), 41 P0.2 (io), 42 P0.1 (io), 43 P0.0 (io), 44 VDD (power)

## STC12C5A60AD
designator U?
footprint DIP40
pins: 1 P10/CLKOUT2/ADC0 (io), 2 P1.1/ADC1 (io), 3 P1.2/ADC2/RXD2/ECI (io), 4 P1.3/ADC3/TXD2/CCP0 (io), 5 P1.4/ADC4/SS/CCP1 (io), 6 P1.5/ADC5/MOSI (io), 7 P1.6/ADC6/MISO (io), 8 P1.7/ADC7/SCLK (io), 9 P4.7/RESET (in), 10 P30/RXD (io), 11 P31/TXD (io), 12 P32/~{INT0} (io), 13 P33/~{INT1} (io), 14 P34/T0/CLKOUT0 (io), 15 P35/T1/CLKOUT1 (io), 16 P36/~{WR} (io), 17 P37/~{RD} (io), 18 XTAL2 (out), 19 XTAL1 (in), 20 GND (power), 21 P20/A8 (io), 22 P21/A9 (io), 23 P22/A10 (io), 24 P23/A11 (io), 25 P24/A12 (io), 26 P25/A13 (io), 27 P26/A14 (io), 28 P27/A15 (io), 29 NA/P4.4 (io), 30 ALE/P4.5 (io), 31 EX_LVD/P4.6 (io), 32 P07/AD7 (io), 33 P06/AD6 (io), 34 P05/AD5 (io), 35 P04/AD4 (io), 36 P03/AD3 (io), 37 P02/AD2 (io), 38 P01/AD1 (io), 39 P00/AD0 (io), 40 VCC (power)